# Altium schematic symbol library BundledUserSymbols.SchLib: 915 symbols (part 14 of 17)
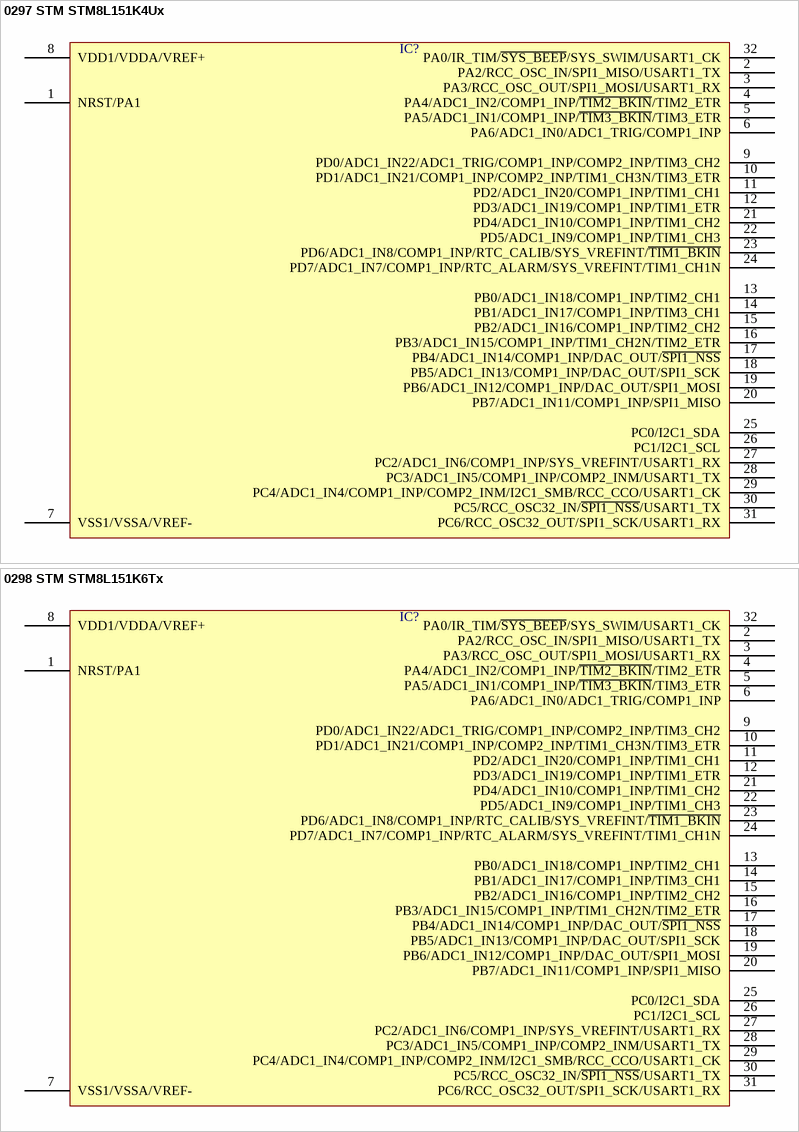
[diagram p180: symbols 0297 STM STM8L151K4Ux to 0298 STM STM8L151K6Tx]

## 0297 STM STM8L151K4Ux
designator IC?  (value not drawn)
pins: 1 NRST/PA1, 2 PA2/RCC_OSC_IN/SPI1_MISO/USART1_TX, 3 PA3/RCC_OSC_OUT/SPI1_MOSI/USART1_RX, 4 PA4/ADC1_IN2/COMP1_INP/~{TIM2_BKIN}/TIM2_ETR, 5 PA5/ADC1_IN1/COMP1_INP/~{TIM3_BKIN}/TIM3_ETR, 6 PA6/ADC1_IN0/ADC1_TRIG/COMP1_INP, 7 VSS1/VSSA/VREF-, 8 VDD1/VDDA/VREF+, 9 PD0/ADC1_IN22/ADC1_TRIG/COMP1_INP/COMP2_INP/TIM3_CH2, 10 PD1/ADC1_IN21/COMP1_INP/COMP2_INP/TIM1_CH3N/TIM3_ETR, 11 PD2/ADC1_IN20/COMP1_INP/TIM1_CH1, 12 PD3/ADC1_IN19/COMP1_INP/TIM1_ETR, 13 PB0/ADC1_IN18/COMP1_INP/TIM2_CH1, 14 PB1/ADC1_IN17/COMP1_INP/TIM3_CH1, 15 PB2/ADC1_IN16/COMP1_INP/TIM2_CH2, 16 PB3/ADC1_IN15/COMP1_INP/TIM1_CH2N/TIM2_ETR, 17 PB4/ADC1_IN14/COMP1_INP/DAC_OUT/~{SPI1_NSS}, 18 PB5/ADC1_IN13/COMP1_INP/DAC_OUT/SPI1_SCK, 19 PB6/ADC1_IN12/COMP1_INP/DAC_OUT/SPI1_MOSI, 20 PB7/ADC1_IN11/COMP1_INP/SPI1_MISO, 21 PD4/ADC1_IN10/COMP1_INP/TIM1_CH2, 22 PD5/ADC1_IN9/COMP1_INP/TIM1_CH3, 23 PD6/ADC1_IN8/COMP1_INP/RTC_CALIB/SYS_VREFINT/~{TIM1_BKIN}, 24 PD7/ADC1_IN7/COMP1_INP/RTC_ALARM/SYS_VREFINT/TIM1_CH1N, 25 PC0/I2C1_SDA, 26 PC1/I2C1_SCL, 27 PC2/ADC1_IN6/COMP1_INP/SYS_VREFINT/USART1_RX, 28 PC3/ADC1_IN5/COMP1_INP/COMP2_INM/USART1_TX, 29 PC4/ADC1_IN4/COMP1_INP/COMP2_INM/I2C1_SMB/RCC_CCO/USART1_CK, 30 PC5/RCC_OSC32_IN/~{SPI1_NSS}/USART1_TX, 31 PC6/RCC_OSC32_OUT/SPI1_SCK/USART1_RX, 32 PA0/IR_TIM/~{SYS_BEEP}/SYS_SWIM/USART1_CK

## 0298 STM STM8L151K6Tx
designator IC?  (value not drawn)
pins: 1 NRST/PA1, 2 PA2/RCC_OSC_IN/SPI1_MISO/USART1_TX, 3 PA3/RCC_OSC_OUT/SPI1_MOSI/USART1_RX, 4 PA4/ADC1_IN2/COMP1_INP/~{TIM2_BKIN}/TIM2_ETR, 5 PA5/ADC1_IN1/COMP1_INP/~{TIM3_BKIN}/TIM3_ETR, 6 PA6/ADC1_IN0/ADC1_TRIG/COMP1_INP, 7 VSS1/VSSA/VREF-, 8 VDD1/VDDA/VREF+, 9 PD0/ADC1_IN22/ADC1_TRIG/COMP1_INP/COMP2_INP/TIM3_CH2, 10 PD1/ADC1_IN21/COMP1_INP/COMP2_INP/TIM1_CH3N/TIM3_ETR, 11 PD2/ADC1_IN20/COMP1_INP/TIM1_CH1, 12 PD3/ADC1_IN19/COMP1_INP/TIM1_ETR, 13 PB0/ADC1_IN18/COMP1_INP/TIM2_CH1, 14 PB1/ADC1_IN17/COMP1_INP/TIM3_CH1, 15 PB2/ADC1_IN16/COMP1_INP/TIM2_CH2, 16 PB3/ADC1_IN15/COMP1_INP/TIM1_CH2N/TIM2_ETR, 17 PB4/ADC1_IN14/COMP1_INP/DAC_OUT/~{SPI1_NSS}, 18 PB5/ADC1_IN13/COMP1_INP/DAC_OUT/SPI1_SCK, 19 PB6/ADC1_IN12/COMP1_INP/DAC_OUT/SPI1_MOSI, 20 PB7/ADC1_IN11/COMP1_INP/SPI1_MISO, 21 PD4/ADC1_IN10/COMP1_INP/TIM1_CH2, 22 PD5/ADC1_IN9/COMP1_INP/TIM1_CH3, 23 PD6/ADC1_IN8/COMP1_INP/RTC_CALIB/SYS_VREFINT/~{TIM1_BKIN}, 24 PD7/ADC1_IN7/COMP1_INP/RTC_ALARM/SYS_VREFINT/TIM1_CH1N, 25 PC0/I2C1_SDA, 26 PC1/I2C1_SCL, 27 PC2/ADC1_IN6/COMP1_INP/SYS_VREFINT/USART1_RX, 28 PC3/ADC1_IN5/COMP1_INP/COMP2_INM/USART1_TX, 29 PC4/ADC1_IN4/COMP1_INP/COMP2_INM/I2C1_SMB/RCC_CCO/USART1_CK, 30 PC5/RCC_OSC32_IN/~{SPI1_NSS}/USART1_TX, 31 PC6/RCC_OSC32_OUT/SPI1_SCK/USART1_RX, 32 PA0/IR_TIM/~{SYS_BEEP}/SYS_SWIM/USART1_CK

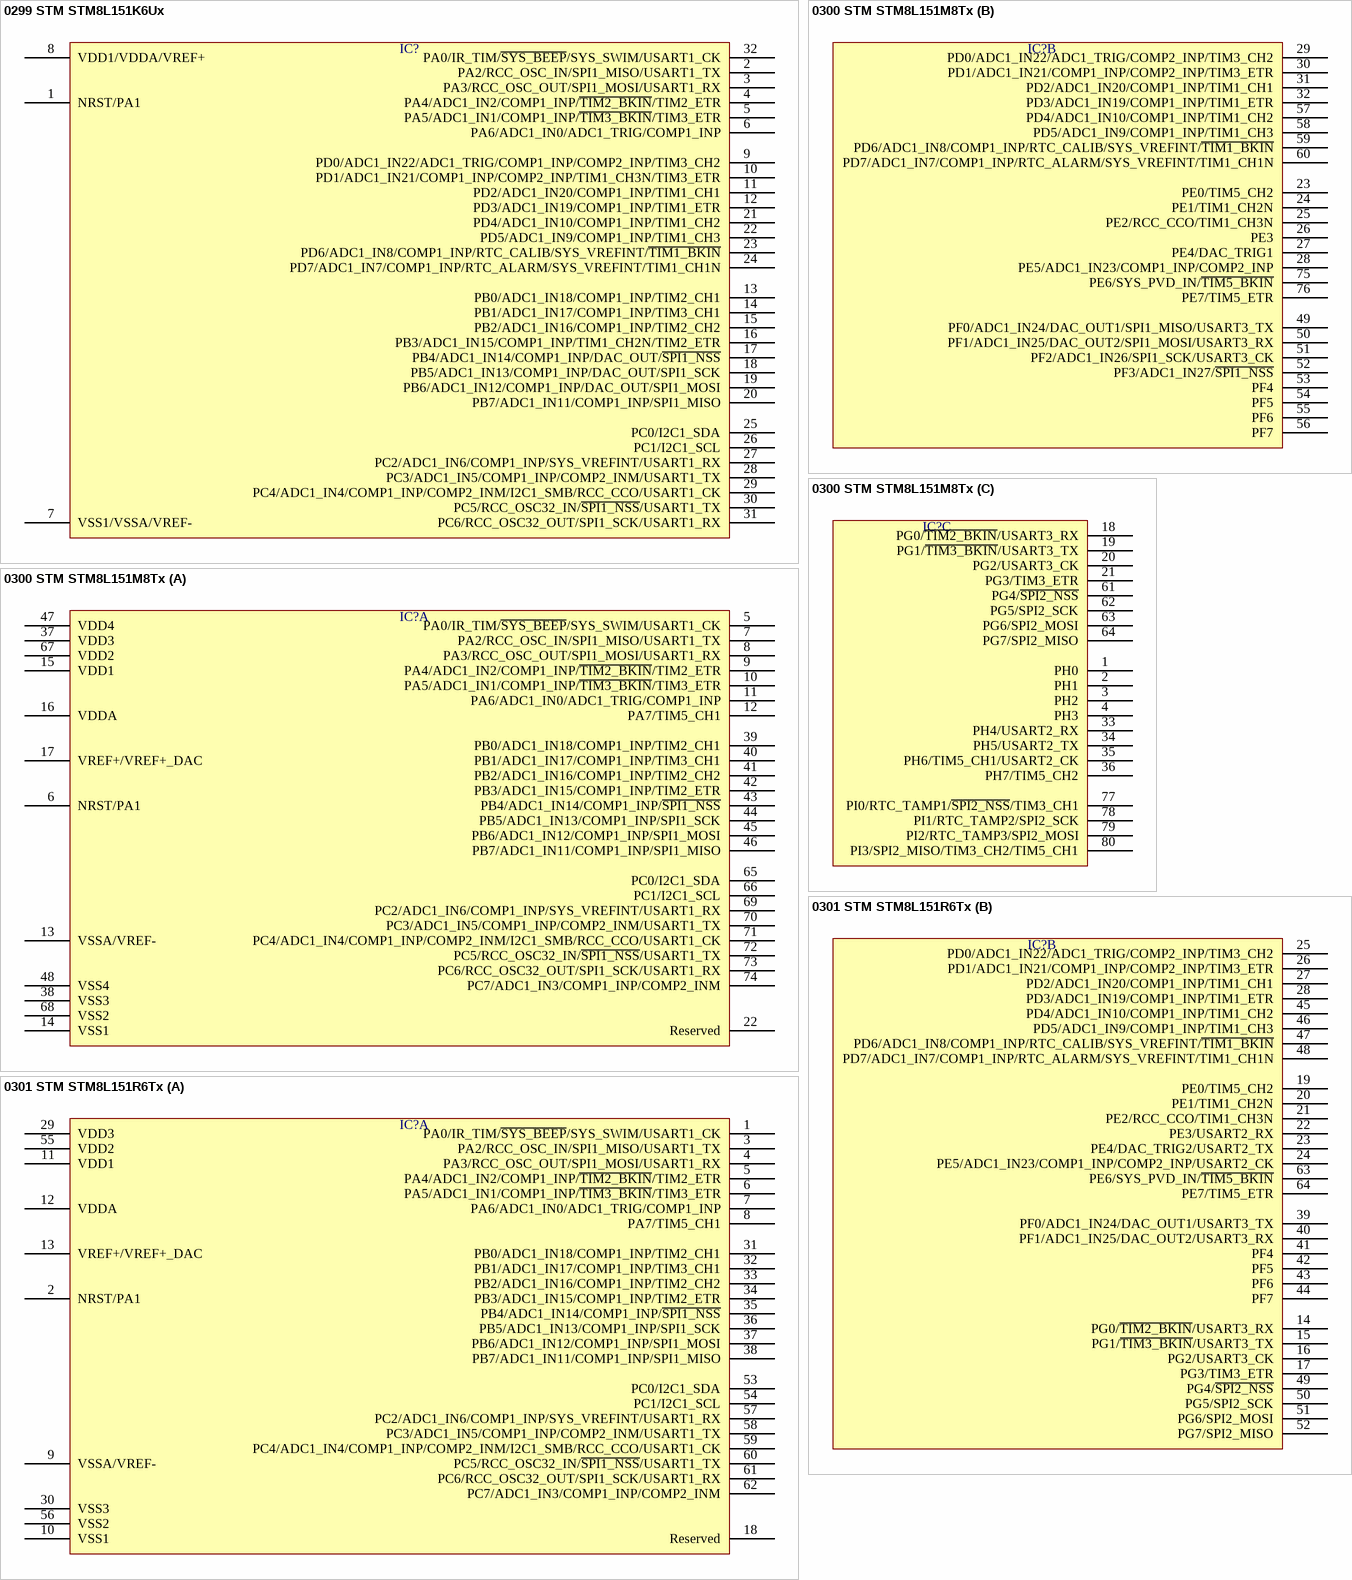
[diagram p130: symbols 0299 STM STM8L151K6Ux to 0301 STM STM8L151R6Tx]

## 0299 STM STM8L151K6Ux
designator IC?  (value not drawn)
pins: 1 NRST/PA1, 2 PA2/RCC_OSC_IN/SPI1_MISO/USART1_TX, 3 PA3/RCC_OSC_OUT/SPI1_MOSI/USART1_RX, 4 PA4/ADC1_IN2/COMP1_INP/~{TIM2_BKIN}/TIM2_ETR, 5 PA5/ADC1_IN1/COMP1_INP/~{TIM3_BKIN}/TIM3_ETR, 6 PA6/ADC1_IN0/ADC1_TRIG/COMP1_INP, 7 VSS1/VSSA/VREF-, 8 VDD1/VDDA/VREF+, 9 PD0/ADC1_IN22/ADC1_TRIG/COMP1_INP/COMP2_INP/TIM3_CH2, 10 PD1/ADC1_IN21/COMP1_INP/COMP2_INP/TIM1_CH3N/TIM3_ETR, 11 PD2/ADC1_IN20/COMP1_INP/TIM1_CH1, 12 PD3/ADC1_IN19/COMP1_INP/TIM1_ETR, 13 PB0/ADC1_IN18/COMP1_INP/TIM2_CH1, 14 PB1/ADC1_IN17/COMP1_INP/TIM3_CH1, 15 PB2/ADC1_IN16/COMP1_INP/TIM2_CH2, 16 PB3/ADC1_IN15/COMP1_INP/TIM1_CH2N/TIM2_ETR, 17 PB4/ADC1_IN14/COMP1_INP/DAC_OUT/~{SPI1_NSS}, 18 PB5/ADC1_IN13/COMP1_INP/DAC_OUT/SPI1_SCK, 19 PB6/ADC1_IN12/COMP1_INP/DAC_OUT/SPI1_MOSI, 20 PB7/ADC1_IN11/COMP1_INP/SPI1_MISO, 21 PD4/ADC1_IN10/COMP1_INP/TIM1_CH2, 22 PD5/ADC1_IN9/COMP1_INP/TIM1_CH3, 23 PD6/ADC1_IN8/COMP1_INP/RTC_CALIB/SYS_VREFINT/~{TIM1_BKIN}, 24 PD7/ADC1_IN7/COMP1_INP/RTC_ALARM/SYS_VREFINT/TIM1_CH1N, 25 PC0/I2C1_SDA, 26 PC1/I2C1_SCL, 27 PC2/ADC1_IN6/COMP1_INP/SYS_VREFINT/USART1_RX, 28 PC3/ADC1_IN5/COMP1_INP/COMP2_INM/USART1_TX, 29 PC4/ADC1_IN4/COMP1_INP/COMP2_INM/I2C1_SMB/RCC_CCO/USART1_CK, 30 PC5/RCC_OSC32_IN/~{SPI1_NSS}/USART1_TX, 31 PC6/RCC_OSC32_OUT/SPI1_SCK/USART1_RX, 32 PA0/IR_TIM/~{SYS_BEEP}/SYS_SWIM/USART1_CK

## 0300 STM STM8L151M8Tx
designator IC?  (value not drawn)
part A pins: 5 PA0/IR_TIM/~{SYS_BEEP}/SYS_SWIM/USART1_CK, 6 NRST/PA1, 7 PA2/RCC_OSC_IN/SPI1_MISO/USART1_TX, 8 PA3/RCC_OSC_OUT/SPI1_MOSI/USART1_RX, 9 PA4/ADC1_IN2/COMP1_INP/~{TIM2_BKIN}/TIM2_ETR, 10 PA5/ADC1_IN1/COMP1_INP/~{TIM3_BKIN}/TIM3_ETR, 11 PA6/ADC1_IN0/ADC1_TRIG/COMP1_INP, 12 PA7/TIM5_CH1, 13 VSSA/VREF-, 14 VSS1, 15 VDD1, 16 VDDA, 17 VREF+/VREF+_DAC, 22 Reserved, 37 VDD3, 38 VSS3, 39 PB0/ADC1_IN18/COMP1_INP/TIM2_CH1, 40 PB1/ADC1_IN17/COMP1_INP/TIM3_CH1, 41 PB2/ADC1_IN16/COMP1_INP/TIM2_CH2, 42 PB3/ADC1_IN15/COMP1_INP/TIM2_ETR, 43 PB4/ADC1_IN14/COMP1_INP/~{SPI1_NSS}, 44 PB5/ADC1_IN13/COMP1_INP/SPI1_SCK, 45 PB6/ADC1_IN12/COMP1_INP/SPI1_MOSI, 46 PB7/ADC1_IN11/COMP1_INP/SPI1_MISO, 47 VDD4, 48 VSS4, 65 PC0/I2C1_SDA, 66 PC1/I2C1_SCL, 67 VDD2, 68 VSS2, 69 PC2/ADC1_IN6/COMP1_INP/SYS_VREFINT/USART1_RX, 70 PC3/ADC1_IN5/COMP1_INP/COMP2_INM/USART1_TX, 71 PC4/ADC1_IN4/COMP1_INP/COMP2_INM/I2C1_SMB/RCC_CCO/USART1_CK, 72 PC5/RCC_OSC32_IN/~{SPI1_NSS}/USART1_TX, 73 PC6/RCC_OSC32_OUT/SPI1_SCK/USART1_RX, 74 PC7/ADC1_IN3/COMP1_INP/COMP2_INM
part B pins: 23 PE0/TIM5_CH2, 24 PE1/TIM1_CH2N, 25 PE2/RCC_CCO/TIM1_CH3N, 26 PE3, 27 PE4/DAC_TRIG1, 28 PE5/ADC1_IN23/COMP1_INP/COMP2_INP, 29 PD0/ADC1_IN22/ADC1_TRIG/COMP2_INP/TIM3_CH2, 30 PD1/ADC1_IN21/COMP1_INP/COMP2_INP/TIM3_ETR, 31 PD2/ADC1_IN20/COMP1_INP/TIM1_CH1, 32 PD3/ADC1_IN19/COMP1_INP/TIM1_ETR, 49 PF0/ADC1_IN24/DAC_OUT1/SPI1_MISO/USART3_TX, 50 PF1/ADC1_IN25/DAC_OUT2/SPI1_MOSI/USART3_RX, 51 PF2/ADC1_IN26/SPI1_SCK/USART3_CK, 52 PF3/ADC1_IN27/~{SPI1_NSS}, 53 PF4, 54 PF5, 55 PF6, 56 PF7, 57 PD4/ADC1_IN10/COMP1_INP/TIM1_CH2, 58 PD5/ADC1_IN9/COMP1_INP/TIM1_CH3, 59 PD6/ADC1_IN8/COMP1_INP/RTC_CALIB/SYS_VREFINT/~{TIM1_BKIN}, 60 PD7/ADC1_IN7/COMP1_INP/RTC_ALARM/SYS_VREFINT/TIM1_CH1N, 75 PE6/SYS_PVD_IN/~{TIM5_BKIN}, 76 PE7/TIM5_ETR
part C pins: 1 PH0, 2 PH1, 3 PH2, 4 PH3, 18 PG0/~{TIM2_BKIN}/USART3_RX, 19 PG1/~{TIM3_BKIN}/USART3_TX, 20 PG2/USART3_CK, 21 PG3/TIM3_ETR, 33 PH4/USART2_RX, 34 PH5/USART2_TX, 35 PH6/TIM5_CH1/USART2_CK, 36 PH7/TIM5_CH2, 61 PG4/~{SPI2_NSS}, 62 PG5/SPI2_SCK, 63 PG6/SPI2_MOSI, 64 PG7/SPI2_MISO, 77 PI0/RTC_TAMP1/~{SPI2_NSS}/TIM3_CH1, 78 PI1/RTC_TAMP2/SPI2_SCK, 79 PI2/RTC_TAMP3/SPI2_MOSI, 80 PI3/SPI2_MISO/TIM3_CH2/TIM5_CH1

## 0301 STM STM8L151R6Tx
designator IC?  (value not drawn)
part A pins: 1 PA0/IR_TIM/~{SYS_BEEP}/SYS_SWIM/USART1_CK, 2 NRST/PA1, 3 PA2/RCC_OSC_IN/SPI1_MISO/USART1_TX, 4 PA3/RCC_OSC_OUT/SPI1_MOSI/USART1_RX, 5 PA4/ADC1_IN2/COMP1_INP/~{TIM2_BKIN}/TIM2_ETR, 6 PA5/ADC1_IN1/COMP1_INP/~{TIM3_BKIN}/TIM3_ETR, 7 PA6/ADC1_IN0/ADC1_TRIG/COMP1_INP, 8 PA7/TIM5_CH1, 9 VSSA/VREF-, 10 VSS1, 11 VDD1, 12 VDDA, 13 VREF+/VREF+_DAC, 18 Reserved, 29 VDD3, 30 VSS3, 31 PB0/ADC1_IN18/COMP1_INP/TIM2_CH1, 32 PB1/ADC1_IN17/COMP1_INP/TIM3_CH1, 33 PB2/ADC1_IN16/COMP1_INP/TIM2_CH2, 34 PB3/ADC1_IN15/COMP1_INP/TIM2_ETR, 35 PB4/ADC1_IN14/COMP1_INP/~{SPI1_NSS}, 36 PB5/ADC1_IN13/COMP1_INP/SPI1_SCK, 37 PB6/ADC1_IN12/COMP1_INP/SPI1_MOSI, 38 PB7/ADC1_IN11/COMP1_INP/SPI1_MISO, 53 PC0/I2C1_SDA, 54 PC1/I2C1_SCL, 55 VDD2, 56 VSS2, 57 PC2/ADC1_IN6/COMP1_INP/SYS_VREFINT/USART1_RX, 58 PC3/ADC1_IN5/COMP1_INP/COMP2_INM/USART1_TX, 59 PC4/ADC1_IN4/COMP1_INP/COMP2_INM/I2C1_SMB/RCC_CCO/USART1_CK, 60 PC5/RCC_OSC32_IN/~{SPI1_NSS}/USART1_TX, 61 PC6/RCC_OSC32_OUT/SPI1_SCK/USART1_RX, 62 PC7/ADC1_IN3/COMP1_INP/COMP2_INM
part B pins: 14 PG0/~{TIM2_BKIN}/USART3_RX, 15 PG1/~{TIM3_BKIN}/USART3_TX, 16 PG2/USART3_CK, 17 PG3/TIM3_ETR, 19 PE0/TIM5_CH2, 20 PE1/TIM1_CH2N, 21 PE2/RCC_CCO/TIM1_CH3N, 22 PE3/USART2_RX, 23 PE4/DAC_TRIG2/USART2_TX, 24 PE5/ADC1_IN23/COMP1_INP/COMP2_INP/USART2_CK, 25 PD0/ADC1_IN22/ADC1_TRIG/COMP2_INP/TIM3_CH2, 26 PD1/ADC1_IN21/COMP1_INP/COMP2_INP/TIM3_ETR, 27 PD2/ADC1_IN20/COMP1_INP/TIM1_CH1, 28 PD3/ADC1_IN19/COMP1_INP/TIM1_ETR, 39 PF0/ADC1_IN24/DAC_OUT1/USART3_TX, 40 PF1/ADC1_IN25/DAC_OUT2/USART3_RX, 41 PF4, 42 PF5, 43 PF6, 44 PF7, 45 PD4/ADC1_IN10/COMP1_INP/TIM1_CH2, 46 PD5/ADC1_IN9/COMP1_INP/TIM1_CH3, 47 PD6/ADC1_IN8/COMP1_INP/RTC_CALIB/SYS_VREFINT/~{TIM1_BKIN}, 48 PD7/ADC1_IN7/COMP1_INP/RTC_ALARM/SYS_VREFINT/TIM1_CH1N, 49 PG4/~{SPI2_NSS}, 50 PG5/SPI2_SCK, 51 PG6/SPI2_MOSI, 52 PG7/SPI2_MISO, 63 PE6/SYS_PVD_IN/~{TIM5_BKIN}, 64 PE7/TIM5_ETR

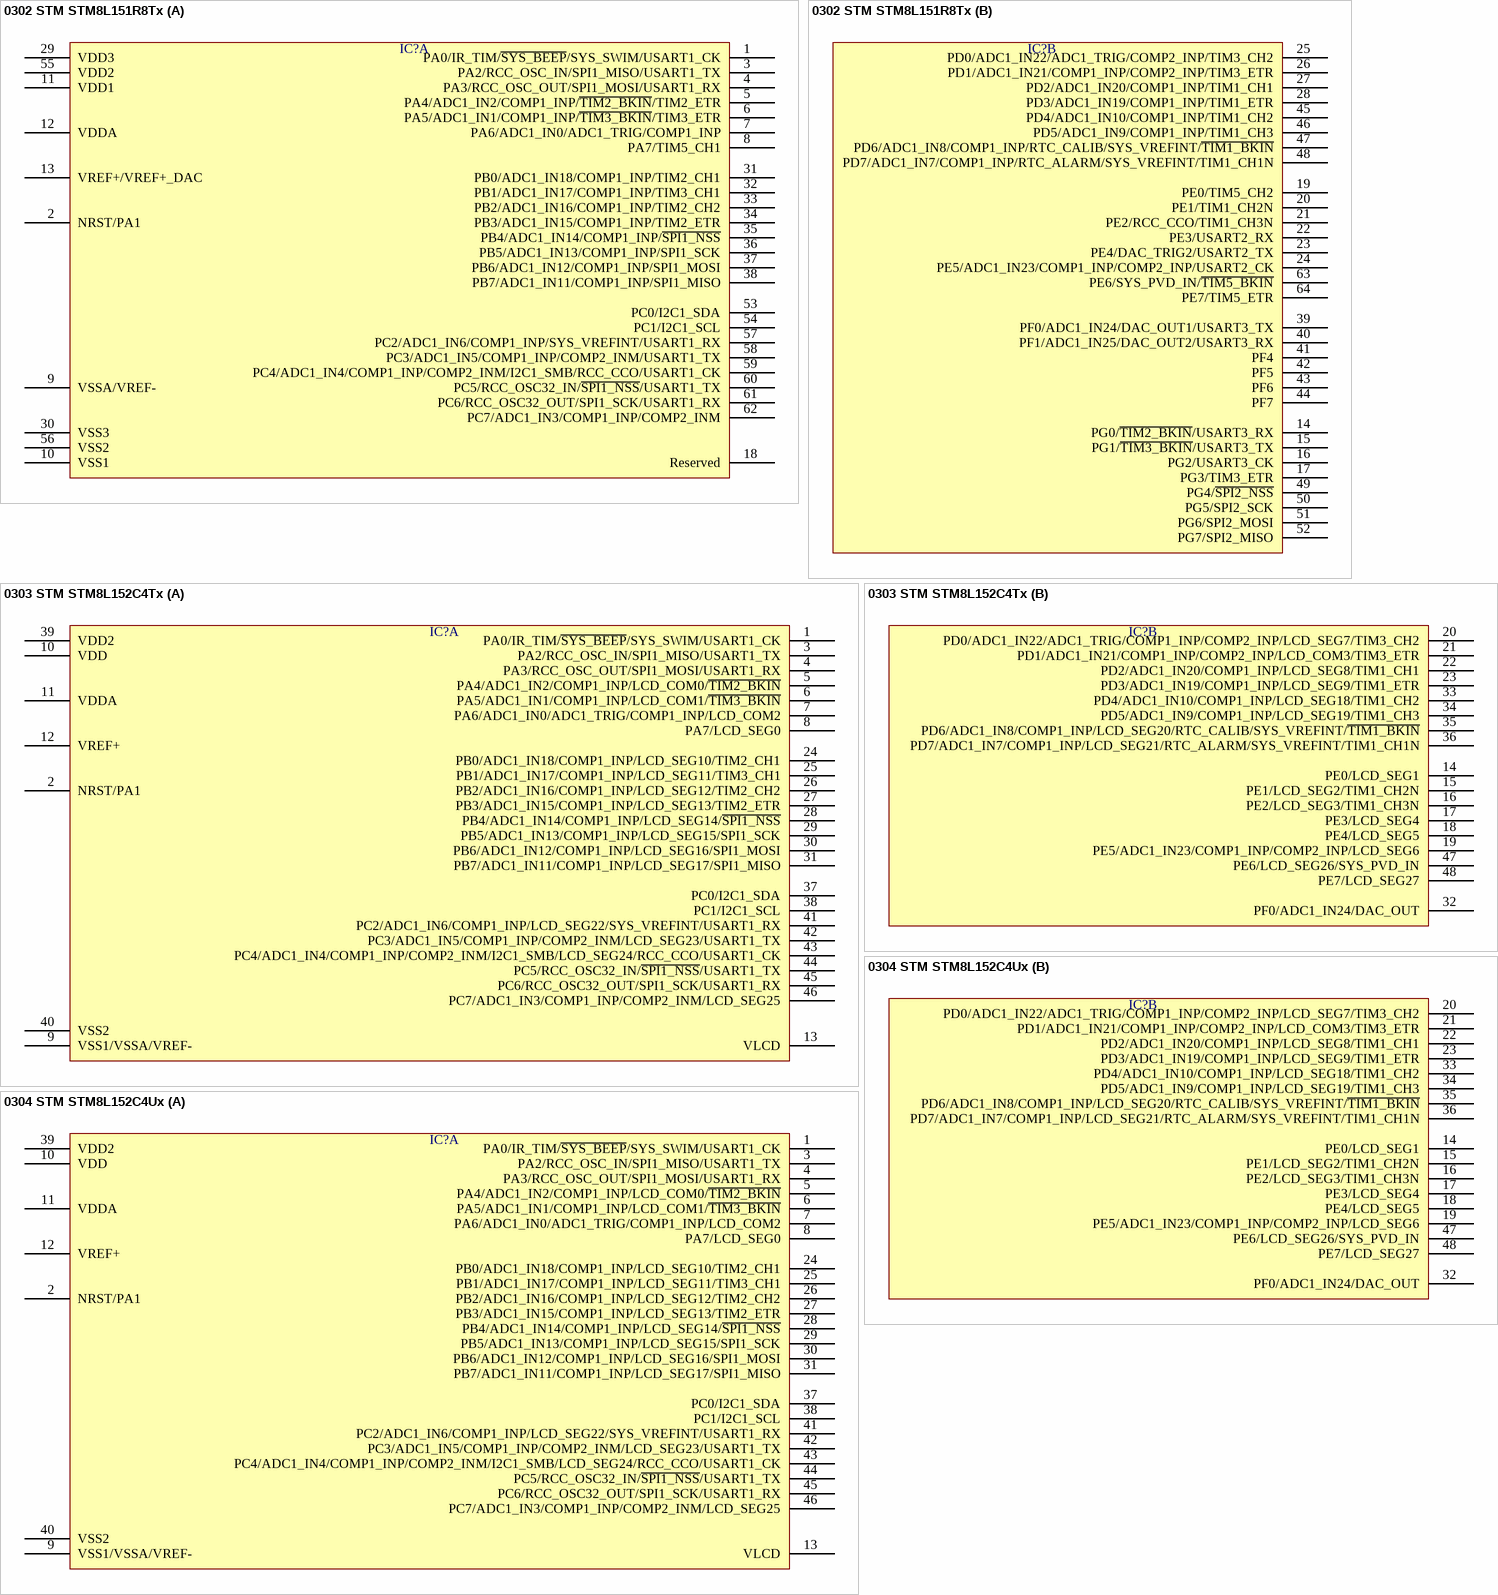
[diagram p131: symbols 0302 STM STM8L151R8Tx to 0304 STM STM8L152C4Ux]

## 0302 STM STM8L151R8Tx
designator IC?  (value not drawn)
part A pins: 1 PA0/IR_TIM/~{SYS_BEEP}/SYS_SWIM/USART1_CK, 2 NRST/PA1, 3 PA2/RCC_OSC_IN/SPI1_MISO/USART1_TX, 4 PA3/RCC_OSC_OUT/SPI1_MOSI/USART1_RX, 5 PA4/ADC1_IN2/COMP1_INP/~{TIM2_BKIN}/TIM2_ETR, 6 PA5/ADC1_IN1/COMP1_INP/~{TIM3_BKIN}/TIM3_ETR, 7 PA6/ADC1_IN0/ADC1_TRIG/COMP1_INP, 8 PA7/TIM5_CH1, 9 VSSA/VREF-, 10 VSS1, 11 VDD1, 12 VDDA, 13 VREF+/VREF+_DAC, 18 Reserved, 29 VDD3, 30 VSS3, 31 PB0/ADC1_IN18/COMP1_INP/TIM2_CH1, 32 PB1/ADC1_IN17/COMP1_INP/TIM3_CH1, 33 PB2/ADC1_IN16/COMP1_INP/TIM2_CH2, 34 PB3/ADC1_IN15/COMP1_INP/TIM2_ETR, 35 PB4/ADC1_IN14/COMP1_INP/~{SPI1_NSS}, 36 PB5/ADC1_IN13/COMP1_INP/SPI1_SCK, 37 PB6/ADC1_IN12/COMP1_INP/SPI1_MOSI, 38 PB7/ADC1_IN11/COMP1_INP/SPI1_MISO, 53 PC0/I2C1_SDA, 54 PC1/I2C1_SCL, 55 VDD2, 56 VSS2, 57 PC2/ADC1_IN6/COMP1_INP/SYS_VREFINT/USART1_RX, 58 PC3/ADC1_IN5/COMP1_INP/COMP2_INM/USART1_TX, 59 PC4/ADC1_IN4/COMP1_INP/COMP2_INM/I2C1_SMB/RCC_CCO/USART1_CK, 60 PC5/RCC_OSC32_IN/~{SPI1_NSS}/USART1_TX, 61 PC6/RCC_OSC32_OUT/SPI1_SCK/USART1_RX, 62 PC7/ADC1_IN3/COMP1_INP/COMP2_INM
part B pins: 14 PG0/~{TIM2_BKIN}/USART3_RX, 15 PG1/~{TIM3_BKIN}/USART3_TX, 16 PG2/USART3_CK, 17 PG3/TIM3_ETR, 19 PE0/TIM5_CH2, 20 PE1/TIM1_CH2N, 21 PE2/RCC_CCO/TIM1_CH3N, 22 PE3/USART2_RX, 23 PE4/DAC_TRIG2/USART2_TX, 24 PE5/ADC1_IN23/COMP1_INP/COMP2_INP/USART2_CK, 25 PD0/ADC1_IN22/ADC1_TRIG/COMP2_INP/TIM3_CH2, 26 PD1/ADC1_IN21/COMP1_INP/COMP2_INP/TIM3_ETR, 27 PD2/ADC1_IN20/COMP1_INP/TIM1_CH1, 28 PD3/ADC1_IN19/COMP1_INP/TIM1_ETR, 39 PF0/ADC1_IN24/DAC_OUT1/USART3_TX, 40 PF1/ADC1_IN25/DAC_OUT2/USART3_RX, 41 PF4, 42 PF5, 43 PF6, 44 PF7, 45 PD4/ADC1_IN10/COMP1_INP/TIM1_CH2, 46 PD5/ADC1_IN9/COMP1_INP/TIM1_CH3, 47 PD6/ADC1_IN8/COMP1_INP/RTC_CALIB/SYS_VREFINT/~{TIM1_BKIN}, 48 PD7/ADC1_IN7/COMP1_INP/RTC_ALARM/SYS_VREFINT/TIM1_CH1N, 49 PG4/~{SPI2_NSS}, 50 PG5/SPI2_SCK, 51 PG6/SPI2_MOSI, 52 PG7/SPI2_MISO, 63 PE6/SYS_PVD_IN/~{TIM5_BKIN}, 64 PE7/TIM5_ETR

## 0303 STM STM8L152C4Tx
designator IC?  (value not drawn)
part A pins: 1 PA0/IR_TIM/~{SYS_BEEP}/SYS_SWIM/USART1_CK, 2 NRST/PA1, 3 PA2/RCC_OSC_IN/SPI1_MISO/USART1_TX, 4 PA3/RCC_OSC_OUT/SPI1_MOSI/USART1_RX, 5 PA4/ADC1_IN2/COMP1_INP/LCD_COM0/~{TIM2_BKIN}, 6 PA5/ADC1_IN1/COMP1_INP/LCD_COM1/~{TIM3_BKIN}, 7 PA6/ADC1_IN0/ADC1_TRIG/COMP1_INP/LCD_COM2, 8 PA7/LCD_SEG0, 9 VSS1/VSSA/VREF-, 10 VDD, 11 VDDA, 12 VREF+, 13 VLCD, 24 PB0/ADC1_IN18/COMP1_INP/LCD_SEG10/TIM2_CH1, 25 PB1/ADC1_IN17/COMP1_INP/LCD_SEG11/TIM3_CH1, 26 PB2/ADC1_IN16/COMP1_INP/LCD_SEG12/TIM2_CH2, 27 PB3/ADC1_IN15/COMP1_INP/LCD_SEG13/TIM2_ETR, 28 PB4/ADC1_IN14/COMP1_INP/LCD_SEG14/~{SPI1_NSS}, 29 PB5/ADC1_IN13/COMP1_INP/LCD_SEG15/SPI1_SCK, 30 PB6/ADC1_IN12/COMP1_INP/LCD_SEG16/SPI1_MOSI, 31 PB7/ADC1_IN11/COMP1_INP/LCD_SEG17/SPI1_MISO, 37 PC0/I2C1_SDA, 38 PC1/I2C1_SCL, 39 VDD2, 40 VSS2, 41 PC2/ADC1_IN6/COMP1_INP/LCD_SEG22/SYS_VREFINT/USART1_RX, 42 PC3/ADC1_IN5/COMP1_INP/COMP2_INM/LCD_SEG23/USART1_TX, 43 PC4/ADC1_IN4/COMP1_INP/COMP2_INM/I2C1_SMB/LCD_SEG24/RCC_CCO/USART1_CK, 44 PC5/RCC_OSC32_IN/~{SPI1_NSS}/USART1_TX, 45 PC6/RCC_OSC32_OUT/SPI1_SCK/USART1_RX, 46 PC7/ADC1_IN3/COMP1_INP/COMP2_INM/LCD_SEG25
part B pins: 14 PE0/LCD_SEG1, 15 PE1/LCD_SEG2/TIM1_CH2N, 16 PE2/LCD_SEG3/TIM1_CH3N, 17 PE3/LCD_SEG4, 18 PE4/LCD_SEG5, 19 PE5/ADC1_IN23/COMP1_INP/COMP2_INP/LCD_SEG6, 20 PD0/ADC1_IN22/ADC1_TRIG/COMP1_INP/COMP2_INP/LCD_SEG7/TIM3_CH2, 21 PD1/ADC1_IN21/COMP1_INP/COMP2_INP/LCD_COM3/TIM3_ETR, 22 PD2/ADC1_IN20/COMP1_INP/LCD_SEG8/TIM1_CH1, 23 PD3/ADC1_IN19/COMP1_INP/LCD_SEG9/TIM1_ETR, 32 PF0/ADC1_IN24/DAC_OUT, 33 PD4/ADC1_IN10/COMP1_INP/LCD_SEG18/TIM1_CH2, 34 PD5/ADC1_IN9/COMP1_INP/LCD_SEG19/TIM1_CH3, 35 PD6/ADC1_IN8/COMP1_INP/LCD_SEG20/RTC_CALIB/SYS_VREFINT/~{TIM1_BKIN}, 36 PD7/ADC1_IN7/COMP1_INP/LCD_SEG21/RTC_ALARM/SYS_VREFINT/TIM1_CH1N, 47 PE6/LCD_SEG26/SYS_PVD_IN, 48 PE7/LCD_SEG27

## 0304 STM STM8L152C4Ux
designator IC?  (value not drawn)
part A pins: 1 PA0/IR_TIM/~{SYS_BEEP}/SYS_SWIM/USART1_CK, 2 NRST/PA1, 3 PA2/RCC_OSC_IN/SPI1_MISO/USART1_TX, 4 PA3/RCC_OSC_OUT/SPI1_MOSI/USART1_RX, 5 PA4/ADC1_IN2/COMP1_INP/LCD_COM0/~{TIM2_BKIN}, 6 PA5/ADC1_IN1/COMP1_INP/LCD_COM1/~{TIM3_BKIN}, 7 PA6/ADC1_IN0/ADC1_TRIG/COMP1_INP/LCD_COM2, 8 PA7/LCD_SEG0, 9 VSS1/VSSA/VREF-, 10 VDD, 11 VDDA, 12 VREF+, 13 VLCD, 24 PB0/ADC1_IN18/COMP1_INP/LCD_SEG10/TIM2_CH1, 25 PB1/ADC1_IN17/COMP1_INP/LCD_SEG11/TIM3_CH1, 26 PB2/ADC1_IN16/COMP1_INP/LCD_SEG12/TIM2_CH2, 27 PB3/ADC1_IN15/COMP1_INP/LCD_SEG13/TIM2_ETR, 28 PB4/ADC1_IN14/COMP1_INP/LCD_SEG14/~{SPI1_NSS}, 29 PB5/ADC1_IN13/COMP1_INP/LCD_SEG15/SPI1_SCK, 30 PB6/ADC1_IN12/COMP1_INP/LCD_SEG16/SPI1_MOSI, 31 PB7/ADC1_IN11/COMP1_INP/LCD_SEG17/SPI1_MISO, 37 PC0/I2C1_SDA, 38 PC1/I2C1_SCL, 39 VDD2, 40 VSS2, 41 PC2/ADC1_IN6/COMP1_INP/LCD_SEG22/SYS_VREFINT/USART1_RX, 42 PC3/ADC1_IN5/COMP1_INP/COMP2_INM/LCD_SEG23/USART1_TX, 43 PC4/ADC1_IN4/COMP1_INP/COMP2_INM/I2C1_SMB/LCD_SEG24/RCC_CCO/USART1_CK, 44 PC5/RCC_OSC32_IN/~{SPI1_NSS}/USART1_TX, 45 PC6/RCC_OSC32_OUT/SPI1_SCK/USART1_RX, 46 PC7/ADC1_IN3/COMP1_INP/COMP2_INM/LCD_SEG25
part B pins: 14 PE0/LCD_SEG1, 15 PE1/LCD_SEG2/TIM1_CH2N, 16 PE2/LCD_SEG3/TIM1_CH3N, 17 PE3/LCD_SEG4, 18 PE4/LCD_SEG5, 19 PE5/ADC1_IN23/COMP1_INP/COMP2_INP/LCD_SEG6, 20 PD0/ADC1_IN22/ADC1_TRIG/COMP1_INP/COMP2_INP/LCD_SEG7/TIM3_CH2, 21 PD1/ADC1_IN21/COMP1_INP/COMP2_INP/LCD_COM3/TIM3_ETR, 22 PD2/ADC1_IN20/COMP1_INP/LCD_SEG8/TIM1_CH1, 23 PD3/ADC1_IN19/COMP1_INP/LCD_SEG9/TIM1_ETR, 32 PF0/ADC1_IN24/DAC_OUT, 33 PD4/ADC1_IN10/COMP1_INP/LCD_SEG18/TIM1_CH2, 34 PD5/ADC1_IN9/COMP1_INP/LCD_SEG19/TIM1_CH3, 35 PD6/ADC1_IN8/COMP1_INP/LCD_SEG20/RTC_CALIB/SYS_VREFINT/~{TIM1_BKIN}, 36 PD7/ADC1_IN7/COMP1_INP/LCD_SEG21/RTC_ALARM/SYS_VREFINT/TIM1_CH1N, 47 PE6/LCD_SEG26/SYS_PVD_IN, 48 PE7/LCD_SEG27

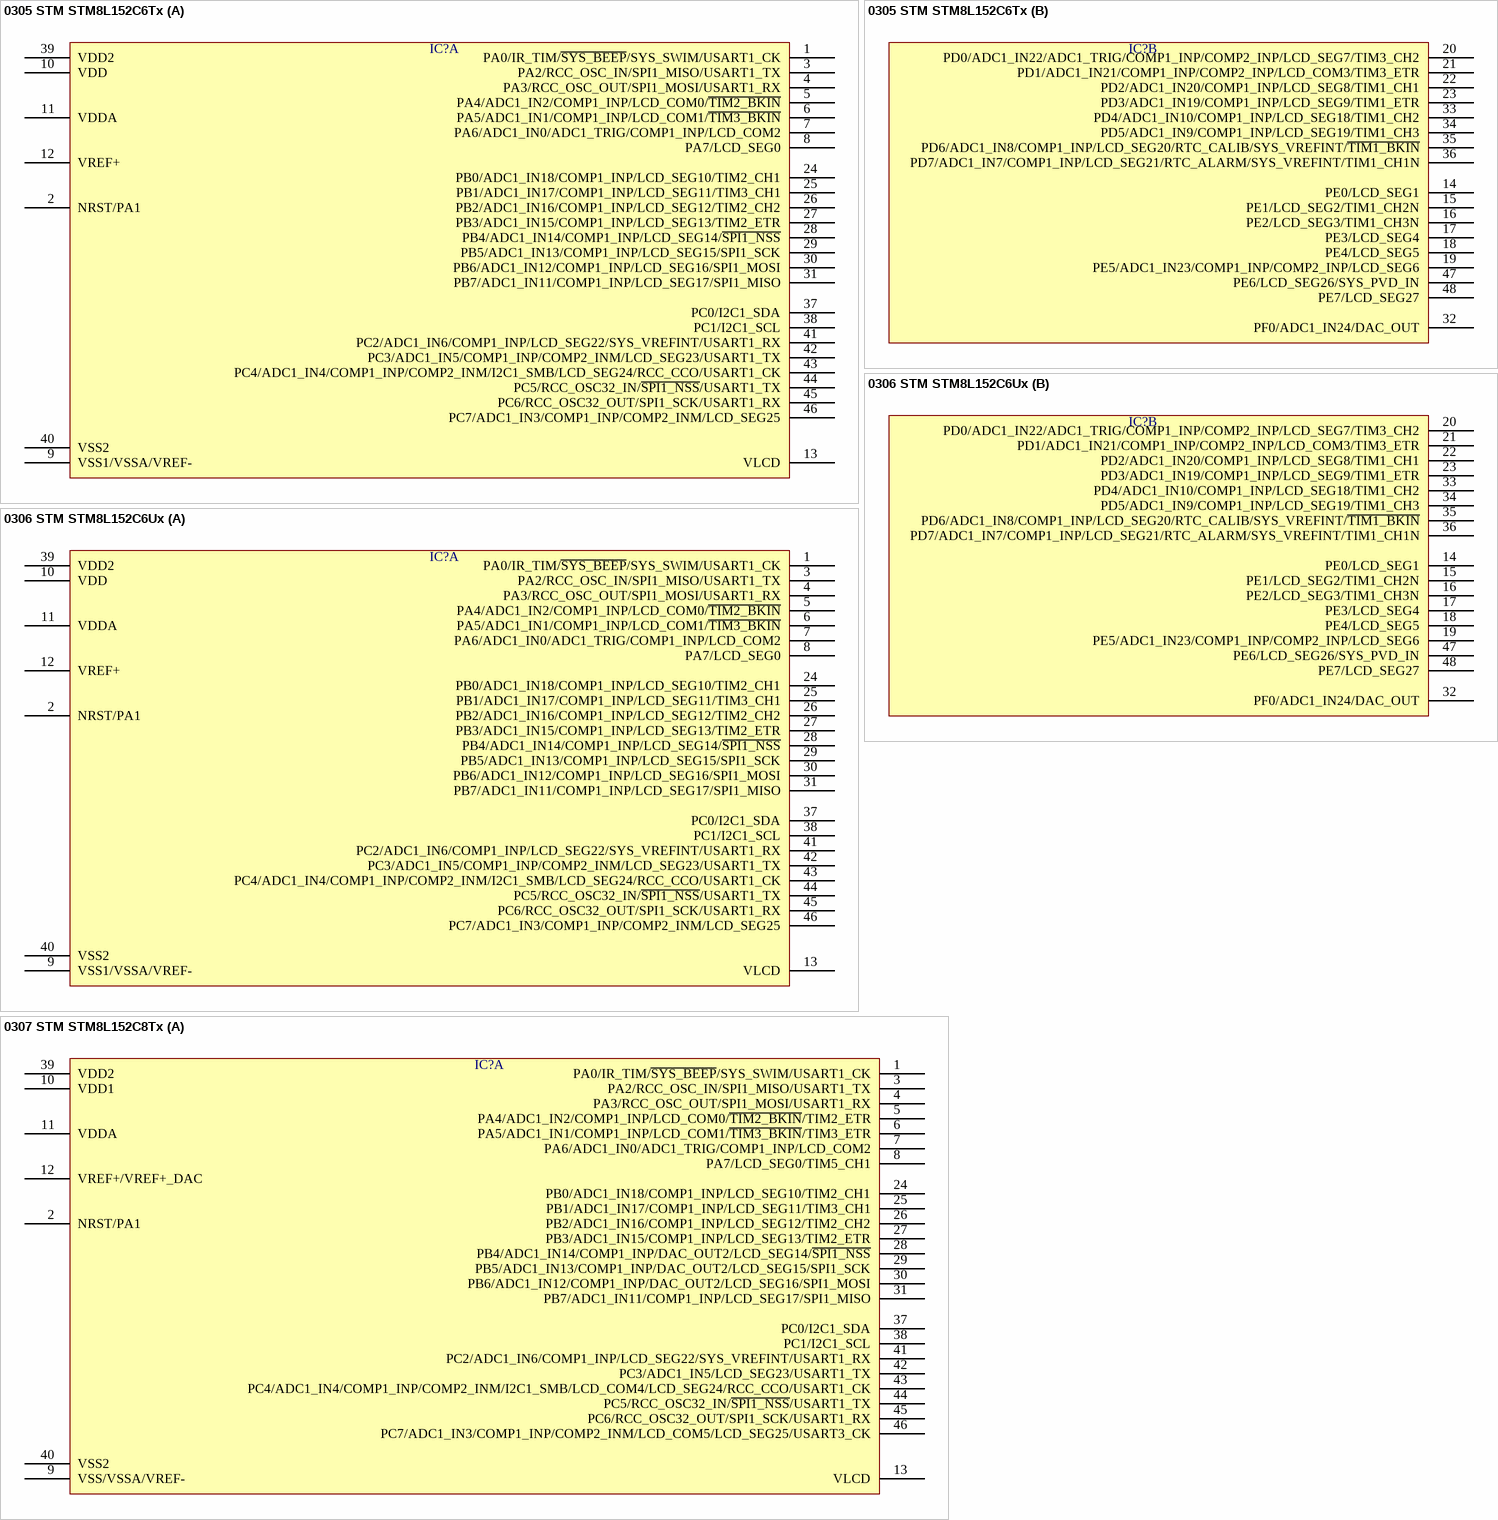
[diagram p132: symbols 0305 STM STM8L152C6Tx to 0307 STM STM8L152C8Tx]

## 0305 STM STM8L152C6Tx
designator IC?  (value not drawn)
part A pins: 1 PA0/IR_TIM/~{SYS_BEEP}/SYS_SWIM/USART1_CK, 2 NRST/PA1, 3 PA2/RCC_OSC_IN/SPI1_MISO/USART1_TX, 4 PA3/RCC_OSC_OUT/SPI1_MOSI/USART1_RX, 5 PA4/ADC1_IN2/COMP1_INP/LCD_COM0/~{TIM2_BKIN}, 6 PA5/ADC1_IN1/COMP1_INP/LCD_COM1/~{TIM3_BKIN}, 7 PA6/ADC1_IN0/ADC1_TRIG/COMP1_INP/LCD_COM2, 8 PA7/LCD_SEG0, 9 VSS1/VSSA/VREF-, 10 VDD, 11 VDDA, 12 VREF+, 13 VLCD, 24 PB0/ADC1_IN18/COMP1_INP/LCD_SEG10/TIM2_CH1, 25 PB1/ADC1_IN17/COMP1_INP/LCD_SEG11/TIM3_CH1, 26 PB2/ADC1_IN16/COMP1_INP/LCD_SEG12/TIM2_CH2, 27 PB3/ADC1_IN15/COMP1_INP/LCD_SEG13/TIM2_ETR, 28 PB4/ADC1_IN14/COMP1_INP/LCD_SEG14/~{SPI1_NSS}, 29 PB5/ADC1_IN13/COMP1_INP/LCD_SEG15/SPI1_SCK, 30 PB6/ADC1_IN12/COMP1_INP/LCD_SEG16/SPI1_MOSI, 31 PB7/ADC1_IN11/COMP1_INP/LCD_SEG17/SPI1_MISO, 37 PC0/I2C1_SDA, 38 PC1/I2C1_SCL, 39 VDD2, 40 VSS2, 41 PC2/ADC1_IN6/COMP1_INP/LCD_SEG22/SYS_VREFINT/USART1_RX, 42 PC3/ADC1_IN5/COMP1_INP/COMP2_INM/LCD_SEG23/USART1_TX, 43 PC4/ADC1_IN4/COMP1_INP/COMP2_INM/I2C1_SMB/LCD_SEG24/RCC_CCO/USART1_CK, 44 PC5/RCC_OSC32_IN/~{SPI1_NSS}/USART1_TX, 45 PC6/RCC_OSC32_OUT/SPI1_SCK/USART1_RX, 46 PC7/ADC1_IN3/COMP1_INP/COMP2_INM/LCD_SEG25
part B pins: 14 PE0/LCD_SEG1, 15 PE1/LCD_SEG2/TIM1_CH2N, 16 PE2/LCD_SEG3/TIM1_CH3N, 17 PE3/LCD_SEG4, 18 PE4/LCD_SEG5, 19 PE5/ADC1_IN23/COMP1_INP/COMP2_INP/LCD_SEG6, 20 PD0/ADC1_IN22/ADC1_TRIG/COMP1_INP/COMP2_INP/LCD_SEG7/TIM3_CH2, 21 PD1/ADC1_IN21/COMP1_INP/COMP2_INP/LCD_COM3/TIM3_ETR, 22 PD2/ADC1_IN20/COMP1_INP/LCD_SEG8/TIM1_CH1, 23 PD3/ADC1_IN19/COMP1_INP/LCD_SEG9/TIM1_ETR, 32 PF0/ADC1_IN24/DAC_OUT, 33 PD4/ADC1_IN10/COMP1_INP/LCD_SEG18/TIM1_CH2, 34 PD5/ADC1_IN9/COMP1_INP/LCD_SEG19/TIM1_CH3, 35 PD6/ADC1_IN8/COMP1_INP/LCD_SEG20/RTC_CALIB/SYS_VREFINT/~{TIM1_BKIN}, 36 PD7/ADC1_IN7/COMP1_INP/LCD_SEG21/RTC_ALARM/SYS_VREFINT/TIM1_CH1N, 47 PE6/LCD_SEG26/SYS_PVD_IN, 48 PE7/LCD_SEG27

## 0306 STM STM8L152C6Ux
designator IC?  (value not drawn)
part A pins: 1 PA0/IR_TIM/~{SYS_BEEP}/SYS_SWIM/USART1_CK, 2 NRST/PA1, 3 PA2/RCC_OSC_IN/SPI1_MISO/USART1_TX, 4 PA3/RCC_OSC_OUT/SPI1_MOSI/USART1_RX, 5 PA4/ADC1_IN2/COMP1_INP/LCD_COM0/~{TIM2_BKIN}, 6 PA5/ADC1_IN1/COMP1_INP/LCD_COM1/~{TIM3_BKIN}, 7 PA6/ADC1_IN0/ADC1_TRIG/COMP1_INP/LCD_COM2, 8 PA7/LCD_SEG0, 9 VSS1/VSSA/VREF-, 10 VDD, 11 VDDA, 12 VREF+, 13 VLCD, 24 PB0/ADC1_IN18/COMP1_INP/LCD_SEG10/TIM2_CH1, 25 PB1/ADC1_IN17/COMP1_INP/LCD_SEG11/TIM3_CH1, 26 PB2/ADC1_IN16/COMP1_INP/LCD_SEG12/TIM2_CH2, 27 PB3/ADC1_IN15/COMP1_INP/LCD_SEG13/TIM2_ETR, 28 PB4/ADC1_IN14/COMP1_INP/LCD_SEG14/~{SPI1_NSS}, 29 PB5/ADC1_IN13/COMP1_INP/LCD_SEG15/SPI1_SCK, 30 PB6/ADC1_IN12/COMP1_INP/LCD_SEG16/SPI1_MOSI, 31 PB7/ADC1_IN11/COMP1_INP/LCD_SEG17/SPI1_MISO, 37 PC0/I2C1_SDA, 38 PC1/I2C1_SCL, 39 VDD2, 40 VSS2, 41 PC2/ADC1_IN6/COMP1_INP/LCD_SEG22/SYS_VREFINT/USART1_RX, 42 PC3/ADC1_IN5/COMP1_INP/COMP2_INM/LCD_SEG23/USART1_TX, 43 PC4/ADC1_IN4/COMP1_INP/COMP2_INM/I2C1_SMB/LCD_SEG24/RCC_CCO/USART1_CK, 44 PC5/RCC_OSC32_IN/~{SPI1_NSS}/USART1_TX, 45 PC6/RCC_OSC32_OUT/SPI1_SCK/USART1_RX, 46 PC7/ADC1_IN3/COMP1_INP/COMP2_INM/LCD_SEG25
part B pins: 14 PE0/LCD_SEG1, 15 PE1/LCD_SEG2/TIM1_CH2N, 16 PE2/LCD_SEG3/TIM1_CH3N, 17 PE3/LCD_SEG4, 18 PE4/LCD_SEG5, 19 PE5/ADC1_IN23/COMP1_INP/COMP2_INP/LCD_SEG6, 20 PD0/ADC1_IN22/ADC1_TRIG/COMP1_INP/COMP2_INP/LCD_SEG7/TIM3_CH2, 21 PD1/ADC1_IN21/COMP1_INP/COMP2_INP/LCD_COM3/TIM3_ETR, 22 PD2/ADC1_IN20/COMP1_INP/LCD_SEG8/TIM1_CH1, 23 PD3/ADC1_IN19/COMP1_INP/LCD_SEG9/TIM1_ETR, 32 PF0/ADC1_IN24/DAC_OUT, 33 PD4/ADC1_IN10/COMP1_INP/LCD_SEG18/TIM1_CH2, 34 PD5/ADC1_IN9/COMP1_INP/LCD_SEG19/TIM1_CH3, 35 PD6/ADC1_IN8/COMP1_INP/LCD_SEG20/RTC_CALIB/SYS_VREFINT/~{TIM1_BKIN}, 36 PD7/ADC1_IN7/COMP1_INP/LCD_SEG21/RTC_ALARM/SYS_VREFINT/TIM1_CH1N, 47 PE6/LCD_SEG26/SYS_PVD_IN, 48 PE7/LCD_SEG27

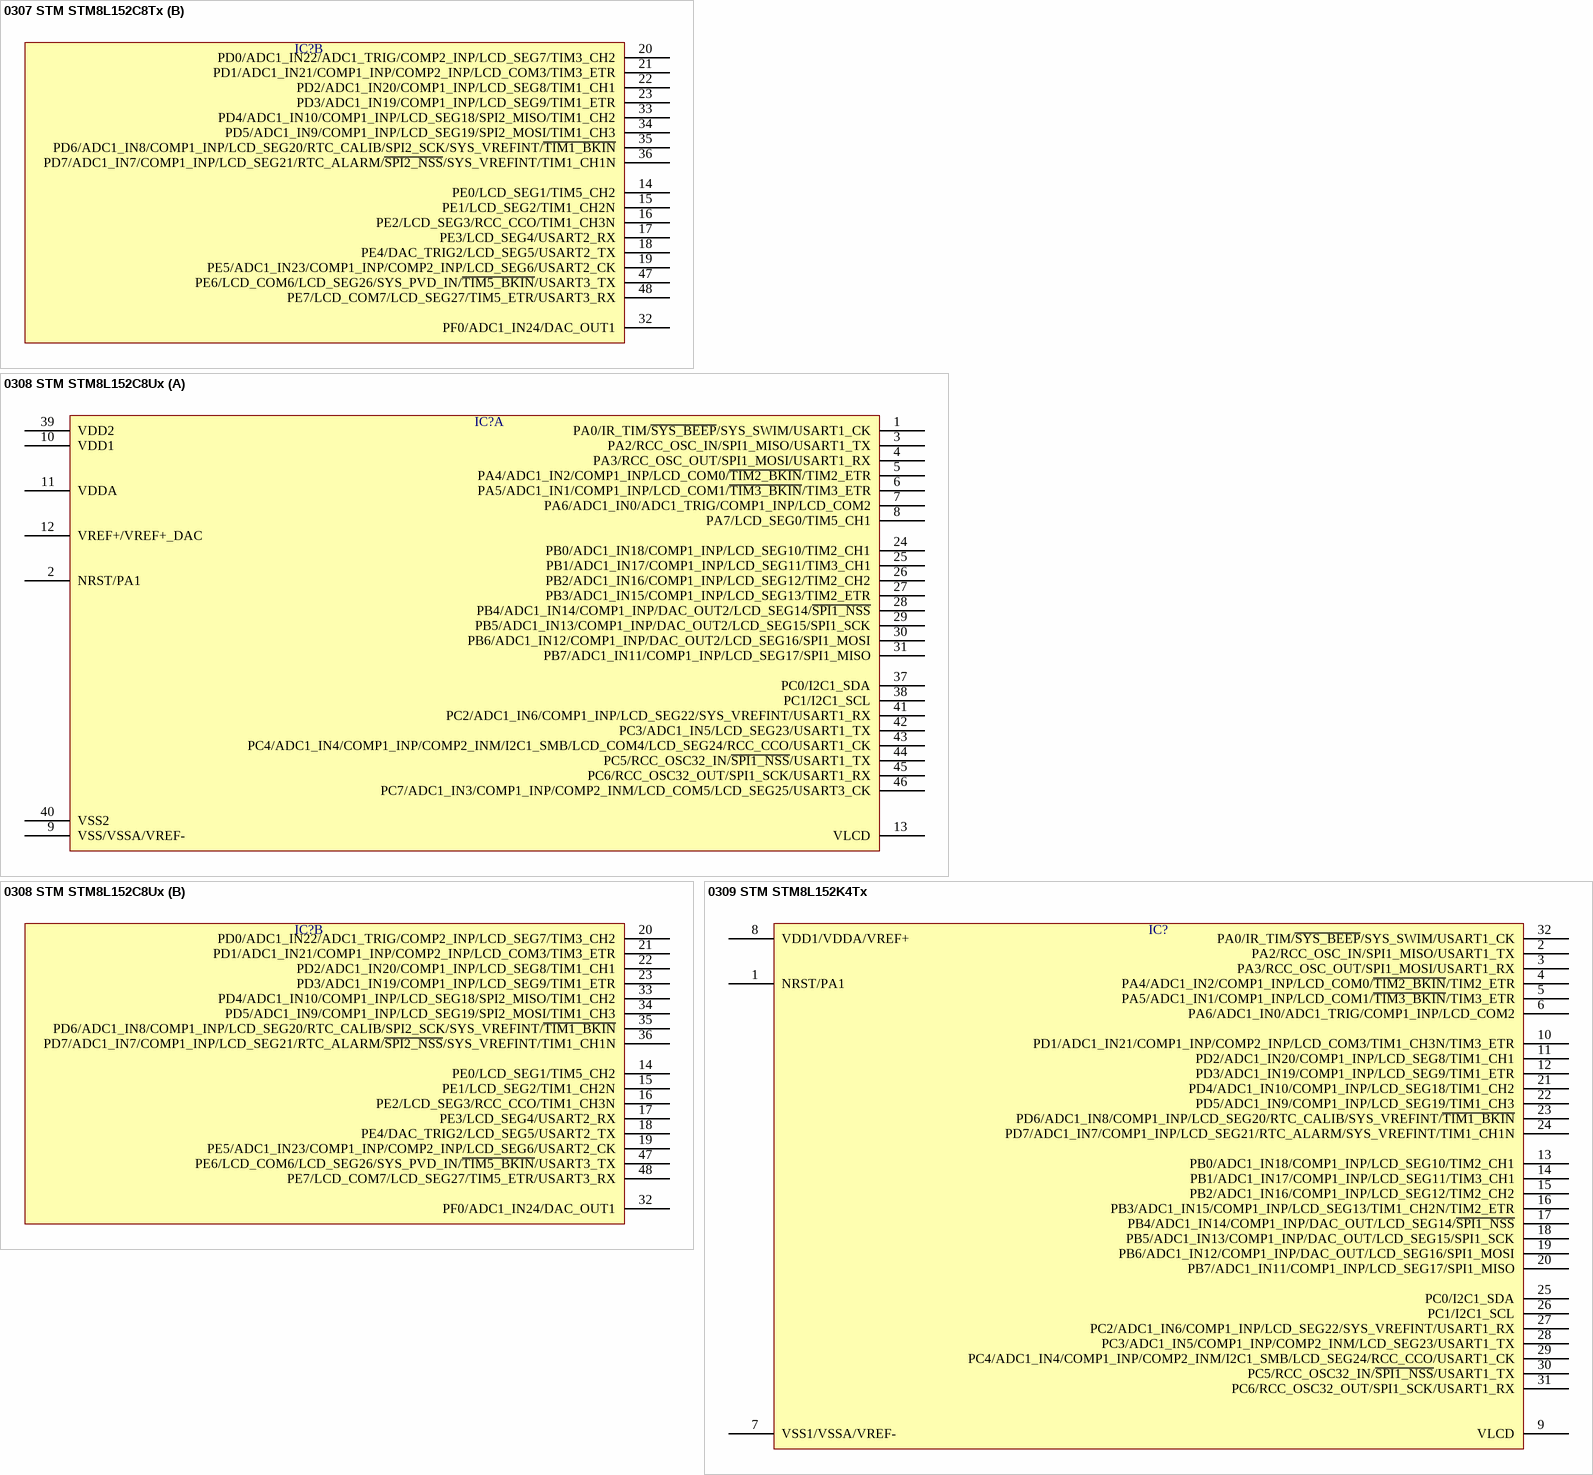
[diagram p133: symbols 0307 STM STM8L152C8Tx to 0309 STM STM8L152K4Tx]

## 0307 STM STM8L152C8Tx
designator IC?  (value not drawn)
part A pins: 1 PA0/IR_TIM/~{SYS_BEEP}/SYS_SWIM/USART1_CK, 2 NRST/PA1, 3 PA2/RCC_OSC_IN/SPI1_MISO/USART1_TX, 4 PA3/RCC_OSC_OUT/SPI1_MOSI/USART1_RX, 5 PA4/ADC1_IN2/COMP1_INP/LCD_COM0/~{TIM2_BKIN}/TIM2_ETR, 6 PA5/ADC1_IN1/COMP1_INP/LCD_COM1/~{TIM3_BKIN}/TIM3_ETR, 7 PA6/ADC1_IN0/ADC1_TRIG/COMP1_INP/LCD_COM2, 8 PA7/LCD_SEG0/TIM5_CH1, 9 VSS/VSSA/VREF-, 10 VDD1, 11 VDDA, 12 VREF+/VREF+_DAC, 13 VLCD, 24 PB0/ADC1_IN18/COMP1_INP/LCD_SEG10/TIM2_CH1, 25 PB1/ADC1_IN17/COMP1_INP/LCD_SEG11/TIM3_CH1, 26 PB2/ADC1_IN16/COMP1_INP/LCD_SEG12/TIM2_CH2, 27 PB3/ADC1_IN15/COMP1_INP/LCD_SEG13/TIM2_ETR, 28 PB4/ADC1_IN14/COMP1_INP/DAC_OUT2/LCD_SEG14/~{SPI1_NSS}, 29 PB5/ADC1_IN13/COMP1_INP/DAC_OUT2/LCD_SEG15/SPI1_SCK, 30 PB6/ADC1_IN12/COMP1_INP/DAC_OUT2/LCD_SEG16/SPI1_MOSI, 31 PB7/ADC1_IN11/COMP1_INP/LCD_SEG17/SPI1_MISO, 37 PC0/I2C1_SDA, 38 PC1/I2C1_SCL, 39 VDD2, 40 VSS2, 41 PC2/ADC1_IN6/COMP1_INP/LCD_SEG22/SYS_VREFINT/USART1_RX, 42 PC3/ADC1_IN5/LCD_SEG23/USART1_TX, 43 PC4/ADC1_IN4/COMP1_INP/COMP2_INM/I2C1_SMB/LCD_COM4/LCD_SEG24/RCC_CCO/USART1_CK, 44 PC5/RCC_OSC32_IN/~{SPI1_NSS}/USART1_TX, 45 PC6/RCC_OSC32_OUT/SPI1_SCK/USART1_RX, 46 PC7/ADC1_IN3/COMP1_INP/COMP2_INM/LCD_COM5/LCD_SEG25/USART3_CK
part B pins: 14 PE0/LCD_SEG1/TIM5_CH2, 15 PE1/LCD_SEG2/TIM1_CH2N, 16 PE2/LCD_SEG3/RCC_CCO/TIM1_CH3N, 17 PE3/LCD_SEG4/USART2_RX, 18 PE4/DAC_TRIG2/LCD_SEG5/USART2_TX, 19 PE5/ADC1_IN23/COMP1_INP/COMP2_INP/LCD_SEG6/USART2_CK, 20 PD0/ADC1_IN22/ADC1_TRIG/COMP2_INP/LCD_SEG7/TIM3_CH2, 21 PD1/ADC1_IN21/COMP1_INP/COMP2_INP/LCD_COM3/TIM3_ETR, 22 PD2/ADC1_IN20/COMP1_INP/LCD_SEG8/TIM1_CH1, 23 PD3/ADC1_IN19/COMP1_INP/LCD_SEG9/TIM1_ETR, 32 PF0/ADC1_IN24/DAC_OUT1, 33 PD4/ADC1_IN10/COMP1_INP/LCD_SEG18/SPI2_MISO/TIM1_CH2, 34 PD5/ADC1_IN9/COMP1_INP/LCD_SEG19/SPI2_MOSI/TIM1_CH3, 35 PD6/ADC1_IN8/COMP1_INP/LCD_SEG20/RTC_CALIB/SPI2_SCK/SYS_VREFINT/~{TIM1_BKIN}, 36 PD7/ADC1_IN7/COMP1_INP/LCD_SEG21/RTC_ALARM/~{SPI2_NSS}/SYS_VREFINT/TIM1_CH1N, 47 PE6/LCD_COM6/LCD_SEG26/SYS_PVD_IN/~{TIM5_BKIN}/USART3_TX, 48 PE7/LCD_COM7/LCD_SEG27/TIM5_ETR/USART3_RX

## 0308 STM STM8L152C8Ux
designator IC?  (value not drawn)
part A pins: 1 PA0/IR_TIM/~{SYS_BEEP}/SYS_SWIM/USART1_CK, 2 NRST/PA1, 3 PA2/RCC_OSC_IN/SPI1_MISO/USART1_TX, 4 PA3/RCC_OSC_OUT/SPI1_MOSI/USART1_RX, 5 PA4/ADC1_IN2/COMP1_INP/LCD_COM0/~{TIM2_BKIN}/TIM2_ETR, 6 PA5/ADC1_IN1/COMP1_INP/LCD_COM1/~{TIM3_BKIN}/TIM3_ETR, 7 PA6/ADC1_IN0/ADC1_TRIG/COMP1_INP/LCD_COM2, 8 PA7/LCD_SEG0/TIM5_CH1, 9 VSS/VSSA/VREF-, 10 VDD1, 11 VDDA, 12 VREF+/VREF+_DAC, 13 VLCD, 24 PB0/ADC1_IN18/COMP1_INP/LCD_SEG10/TIM2_CH1, 25 PB1/ADC1_IN17/COMP1_INP/LCD_SEG11/TIM3_CH1, 26 PB2/ADC1_IN16/COMP1_INP/LCD_SEG12/TIM2_CH2, 27 PB3/ADC1_IN15/COMP1_INP/LCD_SEG13/TIM2_ETR, 28 PB4/ADC1_IN14/COMP1_INP/DAC_OUT2/LCD_SEG14/~{SPI1_NSS}, 29 PB5/ADC1_IN13/COMP1_INP/DAC_OUT2/LCD_SEG15/SPI1_SCK, 30 PB6/ADC1_IN12/COMP1_INP/DAC_OUT2/LCD_SEG16/SPI1_MOSI, 31 PB7/ADC1_IN11/COMP1_INP/LCD_SEG17/SPI1_MISO, 37 PC0/I2C1_SDA, 38 PC1/I2C1_SCL, 39 VDD2, 40 VSS2, 41 PC2/ADC1_IN6/COMP1_INP/LCD_SEG22/SYS_VREFINT/USART1_RX, 42 PC3/ADC1_IN5/LCD_SEG23/USART1_TX, 43 PC4/ADC1_IN4/COMP1_INP/COMP2_INM/I2C1_SMB/LCD_COM4/LCD_SEG24/RCC_CCO/USART1_CK, 44 PC5/RCC_OSC32_IN/~{SPI1_NSS}/USART1_TX, 45 PC6/RCC_OSC32_OUT/SPI1_SCK/USART1_RX, 46 PC7/ADC1_IN3/COMP1_INP/COMP2_INM/LCD_COM5/LCD_SEG25/USART3_CK
part B pins: 14 PE0/LCD_SEG1/TIM5_CH2, 15 PE1/LCD_SEG2/TIM1_CH2N, 16 PE2/LCD_SEG3/RCC_CCO/TIM1_CH3N, 17 PE3/LCD_SEG4/USART2_RX, 18 PE4/DAC_TRIG2/LCD_SEG5/USART2_TX, 19 PE5/ADC1_IN23/COMP1_INP/COMP2_INP/LCD_SEG6/USART2_CK, 20 PD0/ADC1_IN22/ADC1_TRIG/COMP2_INP/LCD_SEG7/TIM3_CH2, 21 PD1/ADC1_IN21/COMP1_INP/COMP2_INP/LCD_COM3/TIM3_ETR, 22 PD2/ADC1_IN20/COMP1_INP/LCD_SEG8/TIM1_CH1, 23 PD3/ADC1_IN19/COMP1_INP/LCD_SEG9/TIM1_ETR, 32 PF0/ADC1_IN24/DAC_OUT1, 33 PD4/ADC1_IN10/COMP1_INP/LCD_SEG18/SPI2_MISO/TIM1_CH2, 34 PD5/ADC1_IN9/COMP1_INP/LCD_SEG19/SPI2_MOSI/TIM1_CH3, 35 PD6/ADC1_IN8/COMP1_INP/LCD_SEG20/RTC_CALIB/SPI2_SCK/SYS_VREFINT/~{TIM1_BKIN}, 36 PD7/ADC1_IN7/COMP1_INP/LCD_SEG21/RTC_ALARM/~{SPI2_NSS}/SYS_VREFINT/TIM1_CH1N, 47 PE6/LCD_COM6/LCD_SEG26/SYS_PVD_IN/~{TIM5_BKIN}/USART3_TX, 48 PE7/LCD_COM7/LCD_SEG27/TIM5_ETR/USART3_RX

## 0309 STM STM8L152K4Tx
designator IC?  (value not drawn)
pins: 1 NRST/PA1, 2 PA2/RCC_OSC_IN/SPI1_MISO/USART1_TX, 3 PA3/RCC_OSC_OUT/SPI1_MOSI/USART1_RX, 4 PA4/ADC1_IN2/COMP1_INP/LCD_COM0/~{TIM2_BKIN}/TIM2_ETR, 5 PA5/ADC1_IN1/COMP1_INP/LCD_COM1/~{TIM3_BKIN}/TIM3_ETR, 6 PA6/ADC1_IN0/ADC1_TRIG/COMP1_INP/LCD_COM2, 7 VSS1/VSSA/VREF-, 8 VDD1/VDDA/VREF+, 9 VLCD, 10 PD1/ADC1_IN21/COMP1_INP/COMP2_INP/LCD_COM3/TIM1_CH3N/TIM3_ETR, 11 PD2/ADC1_IN20/COMP1_INP/LCD_SEG8/TIM1_CH1, 12 PD3/ADC1_IN19/COMP1_INP/LCD_SEG9/TIM1_ETR, 13 PB0/ADC1_IN18/COMP1_INP/LCD_SEG10/TIM2_CH1, 14 PB1/ADC1_IN17/COMP1_INP/LCD_SEG11/TIM3_CH1, 15 PB2/ADC1_IN16/COMP1_INP/LCD_SEG12/TIM2_CH2, 16 PB3/ADC1_IN15/COMP1_INP/LCD_SEG13/TIM1_CH2N/TIM2_ETR, 17 PB4/ADC1_IN14/COMP1_INP/DAC_OUT/LCD_SEG14/~{SPI1_NSS}, 18 PB5/ADC1_IN13/COMP1_INP/DAC_OUT/LCD_SEG15/SPI1_SCK, 19 PB6/ADC1_IN12/COMP1_INP/DAC_OUT/LCD_SEG16/SPI1_MOSI, 20 PB7/ADC1_IN11/COMP1_INP/LCD_SEG17/SPI1_MISO, 21 PD4/ADC1_IN10/COMP1_INP/LCD_SEG18/TIM1_CH2, 22 PD5/ADC1_IN9/COMP1_INP/LCD_SEG19/TIM1_CH3, 23 PD6/ADC1_IN8/COMP1_INP/LCD_SEG20/RTC_CALIB/SYS_VREFINT/~{TIM1_BKIN}, 24 PD7/ADC1_IN7/COMP1_INP/LCD_SEG21/RTC_ALARM/SYS_VREFINT/TIM1_CH1N, 25 PC0/I2C1_SDA, 26 PC1/I2C1_SCL, 27 PC2/ADC1_IN6/COMP1_INP/LCD_SEG22/SYS_VREFINT/USART1_RX, 28 PC3/ADC1_IN5/COMP1_INP/COMP2_INM/LCD_SEG23/USART1_TX, 29 PC4/ADC1_IN4/COMP1_INP/COMP2_INM/I2C1_SMB/LCD_SEG24/RCC_CCO/USART1_CK, 30 PC5/RCC_OSC32_IN/~{SPI1_NSS}/USART1_TX, 31 PC6/RCC_OSC32_OUT/SPI1_SCK/USART1_RX, 32 PA0/IR_TIM/~{SYS_BEEP}/SYS_SWIM/USART1_CK

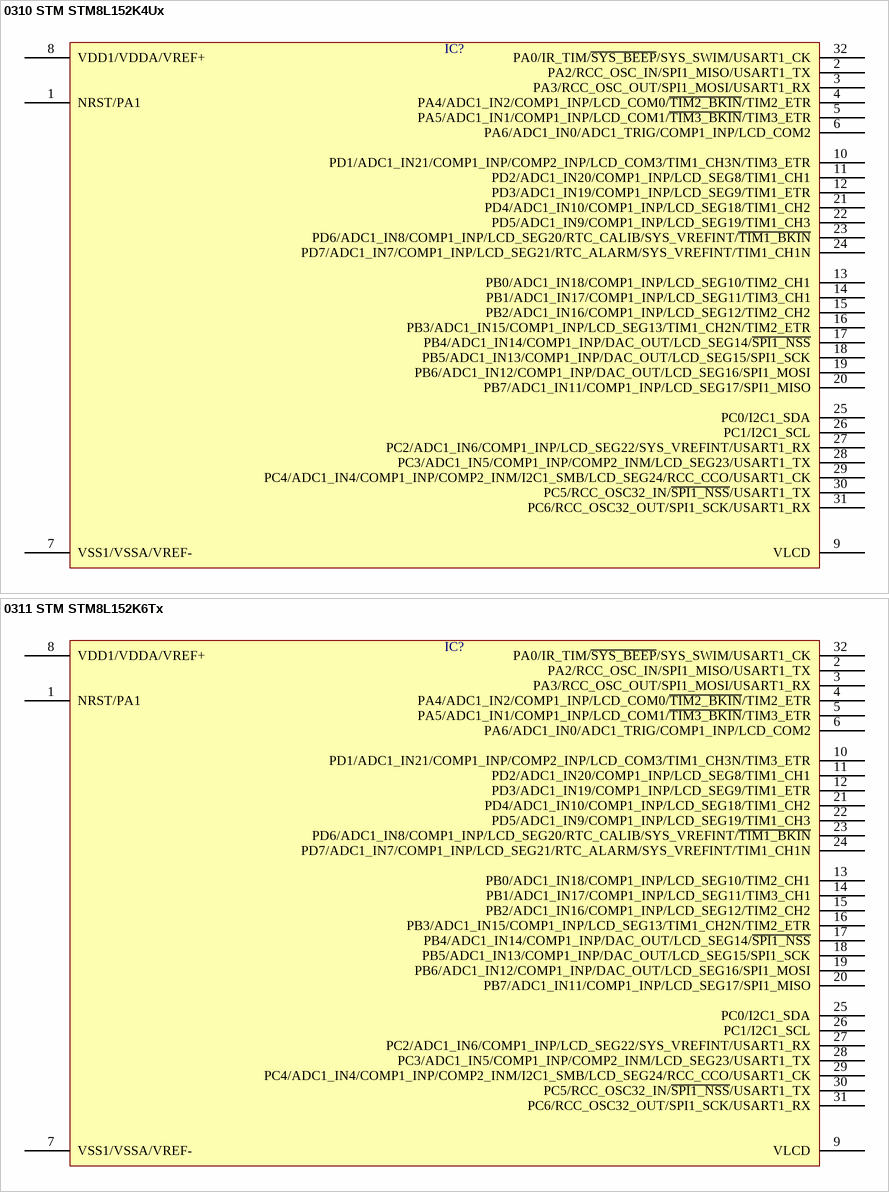
[diagram p134: symbols 0310 STM STM8L152K4Ux to 0311 STM STM8L152K6Tx]

## 0310 STM STM8L152K4Ux
designator IC?  (value not drawn)
pins: 1 NRST/PA1, 2 PA2/RCC_OSC_IN/SPI1_MISO/USART1_TX, 3 PA3/RCC_OSC_OUT/SPI1_MOSI/USART1_RX, 4 PA4/ADC1_IN2/COMP1_INP/LCD_COM0/~{TIM2_BKIN}/TIM2_ETR, 5 PA5/ADC1_IN1/COMP1_INP/LCD_COM1/~{TIM3_BKIN}/TIM3_ETR, 6 PA6/ADC1_IN0/ADC1_TRIG/COMP1_INP/LCD_COM2, 7 VSS1/VSSA/VREF-, 8 VDD1/VDDA/VREF+, 9 VLCD, 10 PD1/ADC1_IN21/COMP1_INP/COMP2_INP/LCD_COM3/TIM1_CH3N/TIM3_ETR, 11 PD2/ADC1_IN20/COMP1_INP/LCD_SEG8/TIM1_CH1, 12 PD3/ADC1_IN19/COMP1_INP/LCD_SEG9/TIM1_ETR, 13 PB0/ADC1_IN18/COMP1_INP/LCD_SEG10/TIM2_CH1, 14 PB1/ADC1_IN17/COMP1_INP/LCD_SEG11/TIM3_CH1, 15 PB2/ADC1_IN16/COMP1_INP/LCD_SEG12/TIM2_CH2, 16 PB3/ADC1_IN15/COMP1_INP/LCD_SEG13/TIM1_CH2N/TIM2_ETR, 17 PB4/ADC1_IN14/COMP1_INP/DAC_OUT/LCD_SEG14/~{SPI1_NSS}, 18 PB5/ADC1_IN13/COMP1_INP/DAC_OUT/LCD_SEG15/SPI1_SCK, 19 PB6/ADC1_IN12/COMP1_INP/DAC_OUT/LCD_SEG16/SPI1_MOSI, 20 PB7/ADC1_IN11/COMP1_INP/LCD_SEG17/SPI1_MISO, 21 PD4/ADC1_IN10/COMP1_INP/LCD_SEG18/TIM1_CH2, 22 PD5/ADC1_IN9/COMP1_INP/LCD_SEG19/TIM1_CH3, 23 PD6/ADC1_IN8/COMP1_INP/LCD_SEG20/RTC_CALIB/SYS_VREFINT/~{TIM1_BKIN}, 24 PD7/ADC1_IN7/COMP1_INP/LCD_SEG21/RTC_ALARM/SYS_VREFINT/TIM1_CH1N, 25 PC0/I2C1_SDA, 26 PC1/I2C1_SCL, 27 PC2/ADC1_IN6/COMP1_INP/LCD_SEG22/SYS_VREFINT/USART1_RX, 28 PC3/ADC1_IN5/COMP1_INP/COMP2_INM/LCD_SEG23/USART1_TX, 29 PC4/ADC1_IN4/COMP1_INP/COMP2_INM/I2C1_SMB/LCD_SEG24/RCC_CCO/USART1_CK, 30 PC5/RCC_OSC32_IN/~{SPI1_NSS}/USART1_TX, 31 PC6/RCC_OSC32_OUT/SPI1_SCK/USART1_RX, 32 PA0/IR_TIM/~{SYS_BEEP}/SYS_SWIM/USART1_CK

## 0311 STM STM8L152K6Tx
designator IC?  (value not drawn)
pins: 1 NRST/PA1, 2 PA2/RCC_OSC_IN/SPI1_MISO/USART1_TX, 3 PA3/RCC_OSC_OUT/SPI1_MOSI/USART1_RX, 4 PA4/ADC1_IN2/COMP1_INP/LCD_COM0/~{TIM2_BKIN}/TIM2_ETR, 5 PA5/ADC1_IN1/COMP1_INP/LCD_COM1/~{TIM3_BKIN}/TIM3_ETR, 6 PA6/ADC1_IN0/ADC1_TRIG/COMP1_INP/LCD_COM2, 7 VSS1/VSSA/VREF-, 8 VDD1/VDDA/VREF+, 9 VLCD, 10 PD1/ADC1_IN21/COMP1_INP/COMP2_INP/LCD_COM3/TIM1_CH3N/TIM3_ETR, 11 PD2/ADC1_IN20/COMP1_INP/LCD_SEG8/TIM1_CH1, 12 PD3/ADC1_IN19/COMP1_INP/LCD_SEG9/TIM1_ETR, 13 PB0/ADC1_IN18/COMP1_INP/LCD_SEG10/TIM2_CH1, 14 PB1/ADC1_IN17/COMP1_INP/LCD_SEG11/TIM3_CH1, 15 PB2/ADC1_IN16/COMP1_INP/LCD_SEG12/TIM2_CH2, 16 PB3/ADC1_IN15/COMP1_INP/LCD_SEG13/TIM1_CH2N/TIM2_ETR, 17 PB4/ADC1_IN14/COMP1_INP/DAC_OUT/LCD_SEG14/~{SPI1_NSS}, 18 PB5/ADC1_IN13/COMP1_INP/DAC_OUT/LCD_SEG15/SPI1_SCK, 19 PB6/ADC1_IN12/COMP1_INP/DAC_OUT/LCD_SEG16/SPI1_MOSI, 20 PB7/ADC1_IN11/COMP1_INP/LCD_SEG17/SPI1_MISO, 21 PD4/ADC1_IN10/COMP1_INP/LCD_SEG18/TIM1_CH2, 22 PD5/ADC1_IN9/COMP1_INP/LCD_SEG19/TIM1_CH3, 23 PD6/ADC1_IN8/COMP1_INP/LCD_SEG20/RTC_CALIB/SYS_VREFINT/~{TIM1_BKIN}, 24 PD7/ADC1_IN7/COMP1_INP/LCD_SEG21/RTC_ALARM/SYS_VREFINT/TIM1_CH1N, 25 PC0/I2C1_SDA, 26 PC1/I2C1_SCL, 27 PC2/ADC1_IN6/COMP1_INP/LCD_SEG22/SYS_VREFINT/USART1_RX, 28 PC3/ADC1_IN5/COMP1_INP/COMP2_INM/LCD_SEG23/USART1_TX, 29 PC4/ADC1_IN4/COMP1_INP/COMP2_INM/I2C1_SMB/LCD_SEG24/RCC_CCO/USART1_CK, 30 PC5/RCC_OSC32_IN/~{SPI1_NSS}/USART1_TX, 31 PC6/RCC_OSC32_OUT/SPI1_SCK/USART1_RX, 32 PA0/IR_TIM/~{SYS_BEEP}/SYS_SWIM/USART1_CK

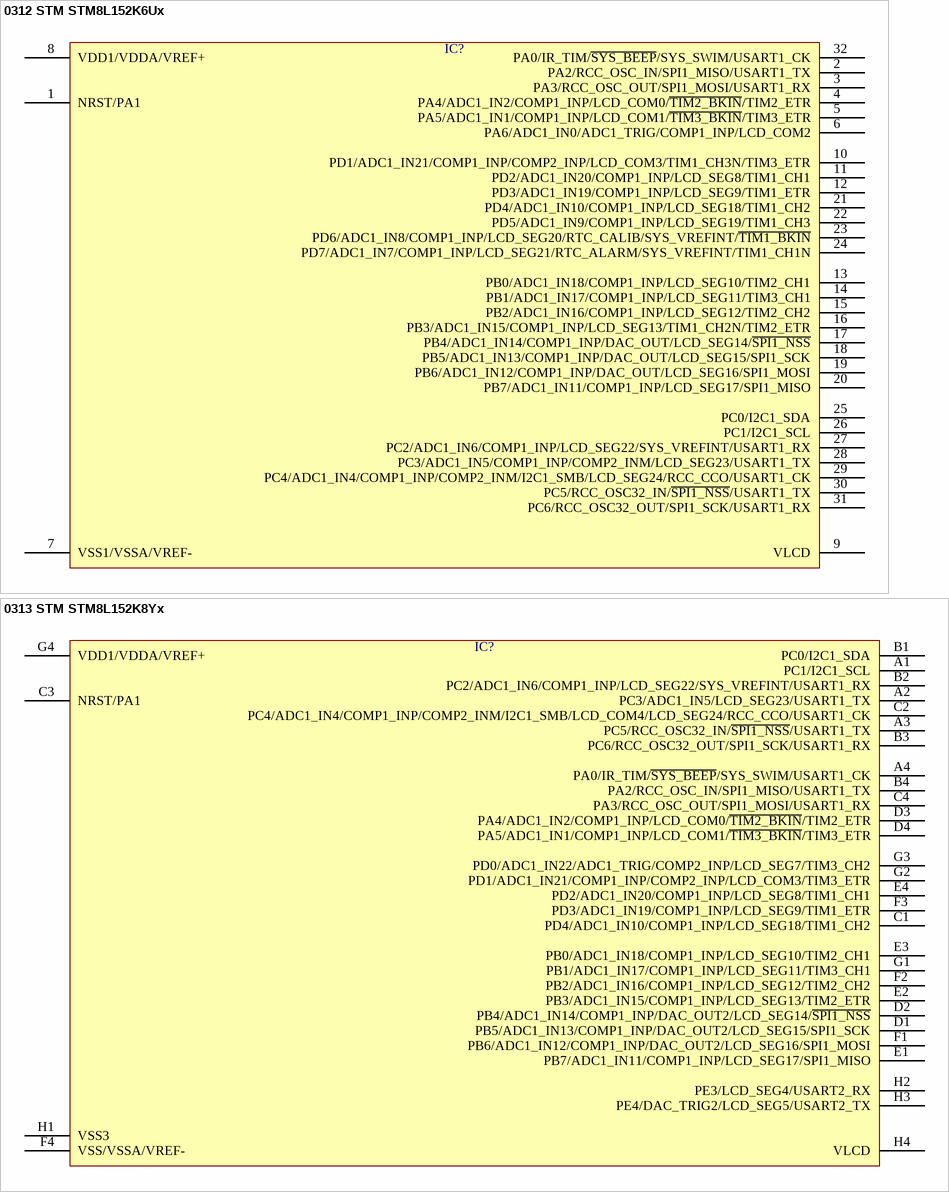
[diagram p135: symbols 0312 STM STM8L152K6Ux to 0313 STM STM8L152K8Yx]

## 0312 STM STM8L152K6Ux
designator IC?  (value not drawn)
pins: 1 NRST/PA1, 2 PA2/RCC_OSC_IN/SPI1_MISO/USART1_TX, 3 PA3/RCC_OSC_OUT/SPI1_MOSI/USART1_RX, 4 PA4/ADC1_IN2/COMP1_INP/LCD_COM0/~{TIM2_BKIN}/TIM2_ETR, 5 PA5/ADC1_IN1/COMP1_INP/LCD_COM1/~{TIM3_BKIN}/TIM3_ETR, 6 PA6/ADC1_IN0/ADC1_TRIG/COMP1_INP/LCD_COM2, 7 VSS1/VSSA/VREF-, 8 VDD1/VDDA/VREF+, 9 VLCD, 10 PD1/ADC1_IN21/COMP1_INP/COMP2_INP/LCD_COM3/TIM1_CH3N/TIM3_ETR, 11 PD2/ADC1_IN20/COMP1_INP/LCD_SEG8/TIM1_CH1, 12 PD3/ADC1_IN19/COMP1_INP/LCD_SEG9/TIM1_ETR, 13 PB0/ADC1_IN18/COMP1_INP/LCD_SEG10/TIM2_CH1, 14 PB1/ADC1_IN17/COMP1_INP/LCD_SEG11/TIM3_CH1, 15 PB2/ADC1_IN16/COMP1_INP/LCD_SEG12/TIM2_CH2, 16 PB3/ADC1_IN15/COMP1_INP/LCD_SEG13/TIM1_CH2N/TIM2_ETR, 17 PB4/ADC1_IN14/COMP1_INP/DAC_OUT/LCD_SEG14/~{SPI1_NSS}, 18 PB5/ADC1_IN13/COMP1_INP/DAC_OUT/LCD_SEG15/SPI1_SCK, 19 PB6/ADC1_IN12/COMP1_INP/DAC_OUT/LCD_SEG16/SPI1_MOSI, 20 PB7/ADC1_IN11/COMP1_INP/LCD_SEG17/SPI1_MISO, 21 PD4/ADC1_IN10/COMP1_INP/LCD_SEG18/TIM1_CH2, 22 PD5/ADC1_IN9/COMP1_INP/LCD_SEG19/TIM1_CH3, 23 PD6/ADC1_IN8/COMP1_INP/LCD_SEG20/RTC_CALIB/SYS_VREFINT/~{TIM1_BKIN}, 24 PD7/ADC1_IN7/COMP1_INP/LCD_SEG21/RTC_ALARM/SYS_VREFINT/TIM1_CH1N, 25 PC0/I2C1_SDA, 26 PC1/I2C1_SCL, 27 PC2/ADC1_IN6/COMP1_INP/LCD_SEG22/SYS_VREFINT/USART1_RX, 28 PC3/ADC1_IN5/COMP1_INP/COMP2_INM/LCD_SEG23/USART1_TX, 29 PC4/ADC1_IN4/COMP1_INP/COMP2_INM/I2C1_SMB/LCD_SEG24/RCC_CCO/USART1_CK, 30 PC5/RCC_OSC32_IN/~{SPI1_NSS}/USART1_TX, 31 PC6/RCC_OSC32_OUT/SPI1_SCK/USART1_RX, 32 PA0/IR_TIM/~{SYS_BEEP}/SYS_SWIM/USART1_CK

## 0313 STM STM8L152K8Yx
designator IC?  (value not drawn)
pins: A1 PC1/I2C1_SCL, A2 PC3/ADC1_IN5/LCD_SEG23/USART1_TX, A3 PC5/RCC_OSC32_IN/~{SPI1_NSS}/USART1_TX, A4 PA0/IR_TIM/~{SYS_BEEP}/SYS_SWIM/USART1_CK, B1 PC0/I2C1_SDA, B2 PC2/ADC1_IN6/COMP1_INP/LCD_SEG22/SYS_VREFINT/USART1_RX, B3 PC6/RCC_OSC32_OUT/SPI1_SCK/USART1_RX, B4 PA2/RCC_OSC_IN/SPI1_MISO/USART1_TX, C1 PD4/ADC1_IN10/COMP1_INP/LCD_SEG18/TIM1_CH2, C2 PC4/ADC1_IN4/COMP1_INP/COMP2_INM/I2C1_SMB/LCD_COM4/LCD_SEG24/RCC_CCO/USART1_CK, C3 NRST/PA1, C4 PA3/RCC_OSC_OUT/SPI1_MOSI/USART1_RX, D1 PB5/ADC1_IN13/COMP1_INP/DAC_OUT2/LCD_SEG15/SPI1_SCK, D2 PB4/ADC1_IN14/COMP1_INP/DAC_OUT2/LCD_SEG14/~{SPI1_NSS}, D3 PA4/ADC1_IN2/COMP1_INP/LCD_COM0/~{TIM2_BKIN}/TIM2_ETR, D4 PA5/ADC1_IN1/COMP1_INP/LCD_COM1/~{TIM3_BKIN}/TIM3_ETR, E1 PB7/ADC1_IN11/COMP1_INP/LCD_SEG17/SPI1_MISO, E2 PB3/ADC1_IN15/COMP1_INP/LCD_SEG13/TIM2_ETR, E3 PB0/ADC1_IN18/COMP1_INP/LCD_SEG10/TIM2_CH1, E4 PD2/ADC1_IN20/COMP1_INP/LCD_SEG8/TIM1_CH1, F1 PB6/ADC1_IN12/COMP1_INP/DAC_OUT2/LCD_SEG16/SPI1_MOSI, F2 PB2/ADC1_IN16/COMP1_INP/LCD_SEG12/TIM2_CH2, F3 PD3/ADC1_IN19/COMP1_INP/LCD_SEG9/TIM1_ETR, F4 VSS/VSSA/VREF-, G1 PB1/ADC1_IN17/COMP1_INP/LCD_SEG11/TIM3_CH1, G2 PD1/ADC1_IN21/COMP1_INP/COMP2_INP/LCD_COM3/TIM3_ETR, G3 PD0/ADC1_IN22/ADC1_TRIG/COMP2_INP/LCD_SEG7/TIM3_CH2, G4 VDD1/VDDA/VREF+, H1 VSS3, H2 PE3/LCD_SEG4/USART2_RX, H3 PE4/DAC_TRIG2/LCD_SEG5/USART2_TX, H4 VLCD

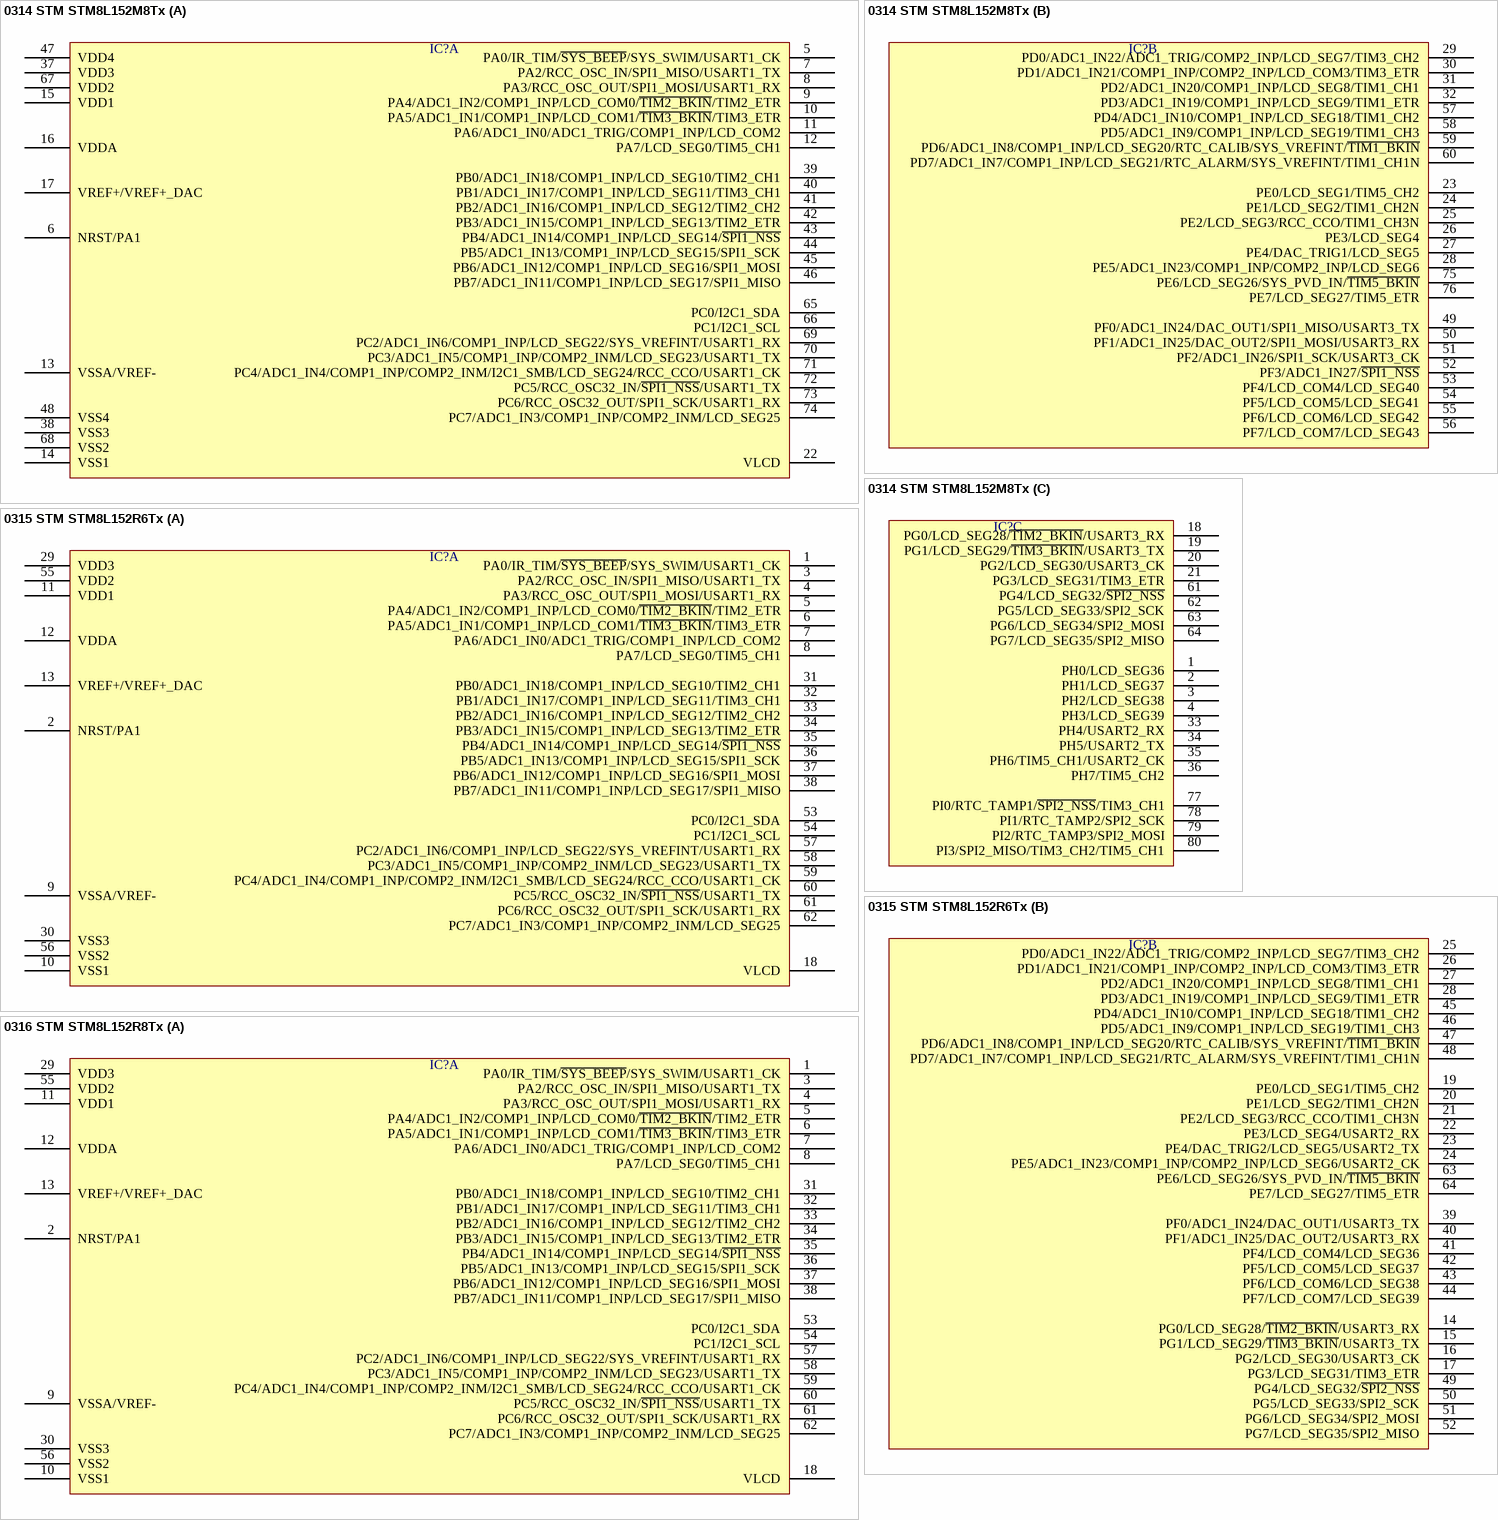
[diagram p136: symbols 0314 STM STM8L152M8Tx to 0316 STM STM8L152R8Tx]

## 0314 STM STM8L152M8Tx
designator IC?  (value not drawn)
part A pins: 5 PA0/IR_TIM/~{SYS_BEEP}/SYS_SWIM/USART1_CK, 6 NRST/PA1, 7 PA2/RCC_OSC_IN/SPI1_MISO/USART1_TX, 8 PA3/RCC_OSC_OUT/SPI1_MOSI/USART1_RX, 9 PA4/ADC1_IN2/COMP1_INP/LCD_COM0/~{TIM2_BKIN}/TIM2_ETR, 10 PA5/ADC1_IN1/COMP1_INP/LCD_COM1/~{TIM3_BKIN}/TIM3_ETR, 11 PA6/ADC1_IN0/ADC1_TRIG/COMP1_INP/LCD_COM2, 12 PA7/LCD_SEG0/TIM5_CH1, 13 VSSA/VREF-, 14 VSS1, 15 VDD1, 16 VDDA, 17 VREF+/VREF+_DAC, 22 VLCD, 37 VDD3, 38 VSS3, 39 PB0/ADC1_IN18/COMP1_INP/LCD_SEG10/TIM2_CH1, 40 PB1/ADC1_IN17/COMP1_INP/LCD_SEG11/TIM3_CH1, 41 PB2/ADC1_IN16/COMP1_INP/LCD_SEG12/TIM2_CH2, 42 PB3/ADC1_IN15/COMP1_INP/LCD_SEG13/TIM2_ETR, 43 PB4/ADC1_IN14/COMP1_INP/LCD_SEG14/~{SPI1_NSS}, 44 PB5/ADC1_IN13/COMP1_INP/LCD_SEG15/SPI1_SCK, 45 PB6/ADC1_IN12/COMP1_INP/LCD_SEG16/SPI1_MOSI, 46 PB7/ADC1_IN11/COMP1_INP/LCD_SEG17/SPI1_MISO, 47 VDD4, 48 VSS4, 65 PC0/I2C1_SDA, 66 PC1/I2C1_SCL, 67 VDD2, 68 VSS2, 69 PC2/ADC1_IN6/COMP1_INP/LCD_SEG22/SYS_VREFINT/USART1_RX, 70 PC3/ADC1_IN5/COMP1_INP/COMP2_INM/LCD_SEG23/USART1_TX, 71 PC4/ADC1_IN4/COMP1_INP/COMP2_INM/I2C1_SMB/LCD_SEG24/RCC_CCO/USART1_CK, 72 PC5/RCC_OSC32_IN/~{SPI1_NSS}/USART1_TX, 73 PC6/RCC_OSC32_OUT/SPI1_SCK/USART1_RX, 74 PC7/ADC1_IN3/COMP1_INP/COMP2_INM/LCD_SEG25
part B pins: 23 PE0/LCD_SEG1/TIM5_CH2, 24 PE1/LCD_SEG2/TIM1_CH2N, 25 PE2/LCD_SEG3/RCC_CCO/TIM1_CH3N, 26 PE3/LCD_SEG4, 27 PE4/DAC_TRIG1/LCD_SEG5, 28 PE5/ADC1_IN23/COMP1_INP/COMP2_INP/LCD_SEG6, 29 PD0/ADC1_IN22/ADC1_TRIG/COMP2_INP/LCD_SEG7/TIM3_CH2, 30 PD1/ADC1_IN21/COMP1_INP/COMP2_INP/LCD_COM3/TIM3_ETR, 31 PD2/ADC1_IN20/COMP1_INP/LCD_SEG8/TIM1_CH1, 32 PD3/ADC1_IN19/COMP1_INP/LCD_SEG9/TIM1_ETR, 49 PF0/ADC1_IN24/DAC_OUT1/SPI1_MISO/USART3_TX, 50 PF1/ADC1_IN25/DAC_OUT2/SPI1_MOSI/USART3_RX, 51 PF2/ADC1_IN26/SPI1_SCK/USART3_CK, 52 PF3/ADC1_IN27/~{SPI1_NSS}, 53 PF4/LCD_COM4/LCD_SEG40, 54 PF5/LCD_COM5/LCD_SEG41, 55 PF6/LCD_COM6/LCD_SEG42, 56 PF7/LCD_COM7/LCD_SEG43, 57 PD4/ADC1_IN10/COMP1_INP/LCD_SEG18/TIM1_CH2, 58 PD5/ADC1_IN9/COMP1_INP/LCD_SEG19/TIM1_CH3, 59 PD6/ADC1_IN8/COMP1_INP/LCD_SEG20/RTC_CALIB/SYS_VREFINT/~{TIM1_BKIN}, 60 PD7/ADC1_IN7/COMP1_INP/LCD_SEG21/RTC_ALARM/SYS_VREFINT/TIM1_CH1N, 75 PE6/LCD_SEG26/SYS_PVD_IN/~{TIM5_BKIN}, 76 PE7/LCD_SEG27/TIM5_ETR
part C pins: 1 PH0/LCD_SEG36, 2 PH1/LCD_SEG37, 3 PH2/LCD_SEG38, 4 PH3/LCD_SEG39, 18 PG0/LCD_SEG28/~{TIM2_BKIN}/USART3_RX, 19 PG1/LCD_SEG29/~{TIM3_BKIN}/USART3_TX, 20 PG2/LCD_SEG30/USART3_CK, 21 PG3/LCD_SEG31/TIM3_ETR, 33 PH4/USART2_RX, 34 PH5/USART2_TX, 35 PH6/TIM5_CH1/USART2_CK, 36 PH7/TIM5_CH2, 61 PG4/LCD_SEG32/~{SPI2_NSS}, 62 PG5/LCD_SEG33/SPI2_SCK, 63 PG6/LCD_SEG34/SPI2_MOSI, 64 PG7/LCD_SEG35/SPI2_MISO, 77 PI0/RTC_TAMP1/~{SPI2_NSS}/TIM3_CH1, 78 PI1/RTC_TAMP2/SPI2_SCK, 79 PI2/RTC_TAMP3/SPI2_MOSI, 80 PI3/SPI2_MISO/TIM3_CH2/TIM5_CH1

## 0315 STM STM8L152R6Tx
designator IC?  (value not drawn)
part A pins: 1 PA0/IR_TIM/~{SYS_BEEP}/SYS_SWIM/USART1_CK, 2 NRST/PA1, 3 PA2/RCC_OSC_IN/SPI1_MISO/USART1_TX, 4 PA3/RCC_OSC_OUT/SPI1_MOSI/USART1_RX, 5 PA4/ADC1_IN2/COMP1_INP/LCD_COM0/~{TIM2_BKIN}/TIM2_ETR, 6 PA5/ADC1_IN1/COMP1_INP/LCD_COM1/~{TIM3_BKIN}/TIM3_ETR, 7 PA6/ADC1_IN0/ADC1_TRIG/COMP1_INP/LCD_COM2, 8 PA7/LCD_SEG0/TIM5_CH1, 9 VSSA/VREF-, 10 VSS1, 11 VDD1, 12 VDDA, 13 VREF+/VREF+_DAC, 18 VLCD, 29 VDD3, 30 VSS3, 31 PB0/ADC1_IN18/COMP1_INP/LCD_SEG10/TIM2_CH1, 32 PB1/ADC1_IN17/COMP1_INP/LCD_SEG11/TIM3_CH1, 33 PB2/ADC1_IN16/COMP1_INP/LCD_SEG12/TIM2_CH2, 34 PB3/ADC1_IN15/COMP1_INP/LCD_SEG13/TIM2_ETR, 35 PB4/ADC1_IN14/COMP1_INP/LCD_SEG14/~{SPI1_NSS}, 36 PB5/ADC1_IN13/COMP1_INP/LCD_SEG15/SPI1_SCK, 37 PB6/ADC1_IN12/COMP1_INP/LCD_SEG16/SPI1_MOSI, 38 PB7/ADC1_IN11/COMP1_INP/LCD_SEG17/SPI1_MISO, 53 PC0/I2C1_SDA, 54 PC1/I2C1_SCL, 55 VDD2, 56 VSS2, 57 PC2/ADC1_IN6/COMP1_INP/LCD_SEG22/SYS_VREFINT/USART1_RX, 58 PC3/ADC1_IN5/COMP1_INP/COMP2_INM/LCD_SEG23/USART1_TX, 59 PC4/ADC1_IN4/COMP1_INP/COMP2_INM/I2C1_SMB/LCD_SEG24/RCC_CCO/USART1_CK, 60 PC5/RCC_OSC32_IN/~{SPI1_NSS}/USART1_TX, 61 PC6/RCC_OSC32_OUT/SPI1_SCK/USART1_RX, 62 PC7/ADC1_IN3/COMP1_INP/COMP2_INM/LCD_SEG25
part B pins: 14 PG0/LCD_SEG28/~{TIM2_BKIN}/USART3_RX, 15 PG1/LCD_SEG29/~{TIM3_BKIN}/USART3_TX, 16 PG2/LCD_SEG30/USART3_CK, 17 PG3/LCD_SEG31/TIM3_ETR, 19 PE0/LCD_SEG1/TIM5_CH2, 20 PE1/LCD_SEG2/TIM1_CH2N, 21 PE2/LCD_SEG3/RCC_CCO/TIM1_CH3N, 22 PE3/LCD_SEG4/USART2_RX, 23 PE4/DAC_TRIG2/LCD_SEG5/USART2_TX, 24 PE5/ADC1_IN23/COMP1_INP/COMP2_INP/LCD_SEG6/USART2_CK, 25 PD0/ADC1_IN22/ADC1_TRIG/COMP2_INP/LCD_SEG7/TIM3_CH2, 26 PD1/ADC1_IN21/COMP1_INP/COMP2_INP/LCD_COM3/TIM3_ETR, 27 PD2/ADC1_IN20/COMP1_INP/LCD_SEG8/TIM1_CH1, 28 PD3/ADC1_IN19/COMP1_INP/LCD_SEG9/TIM1_ETR, 39 PF0/ADC1_IN24/DAC_OUT1/USART3_TX, 40 PF1/ADC1_IN25/DAC_OUT2/USART3_RX, 41 PF4/LCD_COM4/LCD_SEG36, 42 PF5/LCD_COM5/LCD_SEG37, 43 PF6/LCD_COM6/LCD_SEG38, 44 PF7/LCD_COM7/LCD_SEG39, 45 PD4/ADC1_IN10/COMP1_INP/LCD_SEG18/TIM1_CH2, 46 PD5/ADC1_IN9/COMP1_INP/LCD_SEG19/TIM1_CH3, 47 PD6/ADC1_IN8/COMP1_INP/LCD_SEG20/RTC_CALIB/SYS_VREFINT/~{TIM1_BKIN}, 48 PD7/ADC1_IN7/COMP1_INP/LCD_SEG21/RTC_ALARM/SYS_VREFINT/TIM1_CH1N, 49 PG4/LCD_SEG32/~{SPI2_NSS}, 50 PG5/LCD_SEG33/SPI2_SCK, 51 PG6/LCD_SEG34/SPI2_MOSI, 52 PG7/LCD_SEG35/SPI2_MISO, 63 PE6/LCD_SEG26/SYS_PVD_IN/~{TIM5_BKIN}, 64 PE7/LCD_SEG27/TIM5_ETR

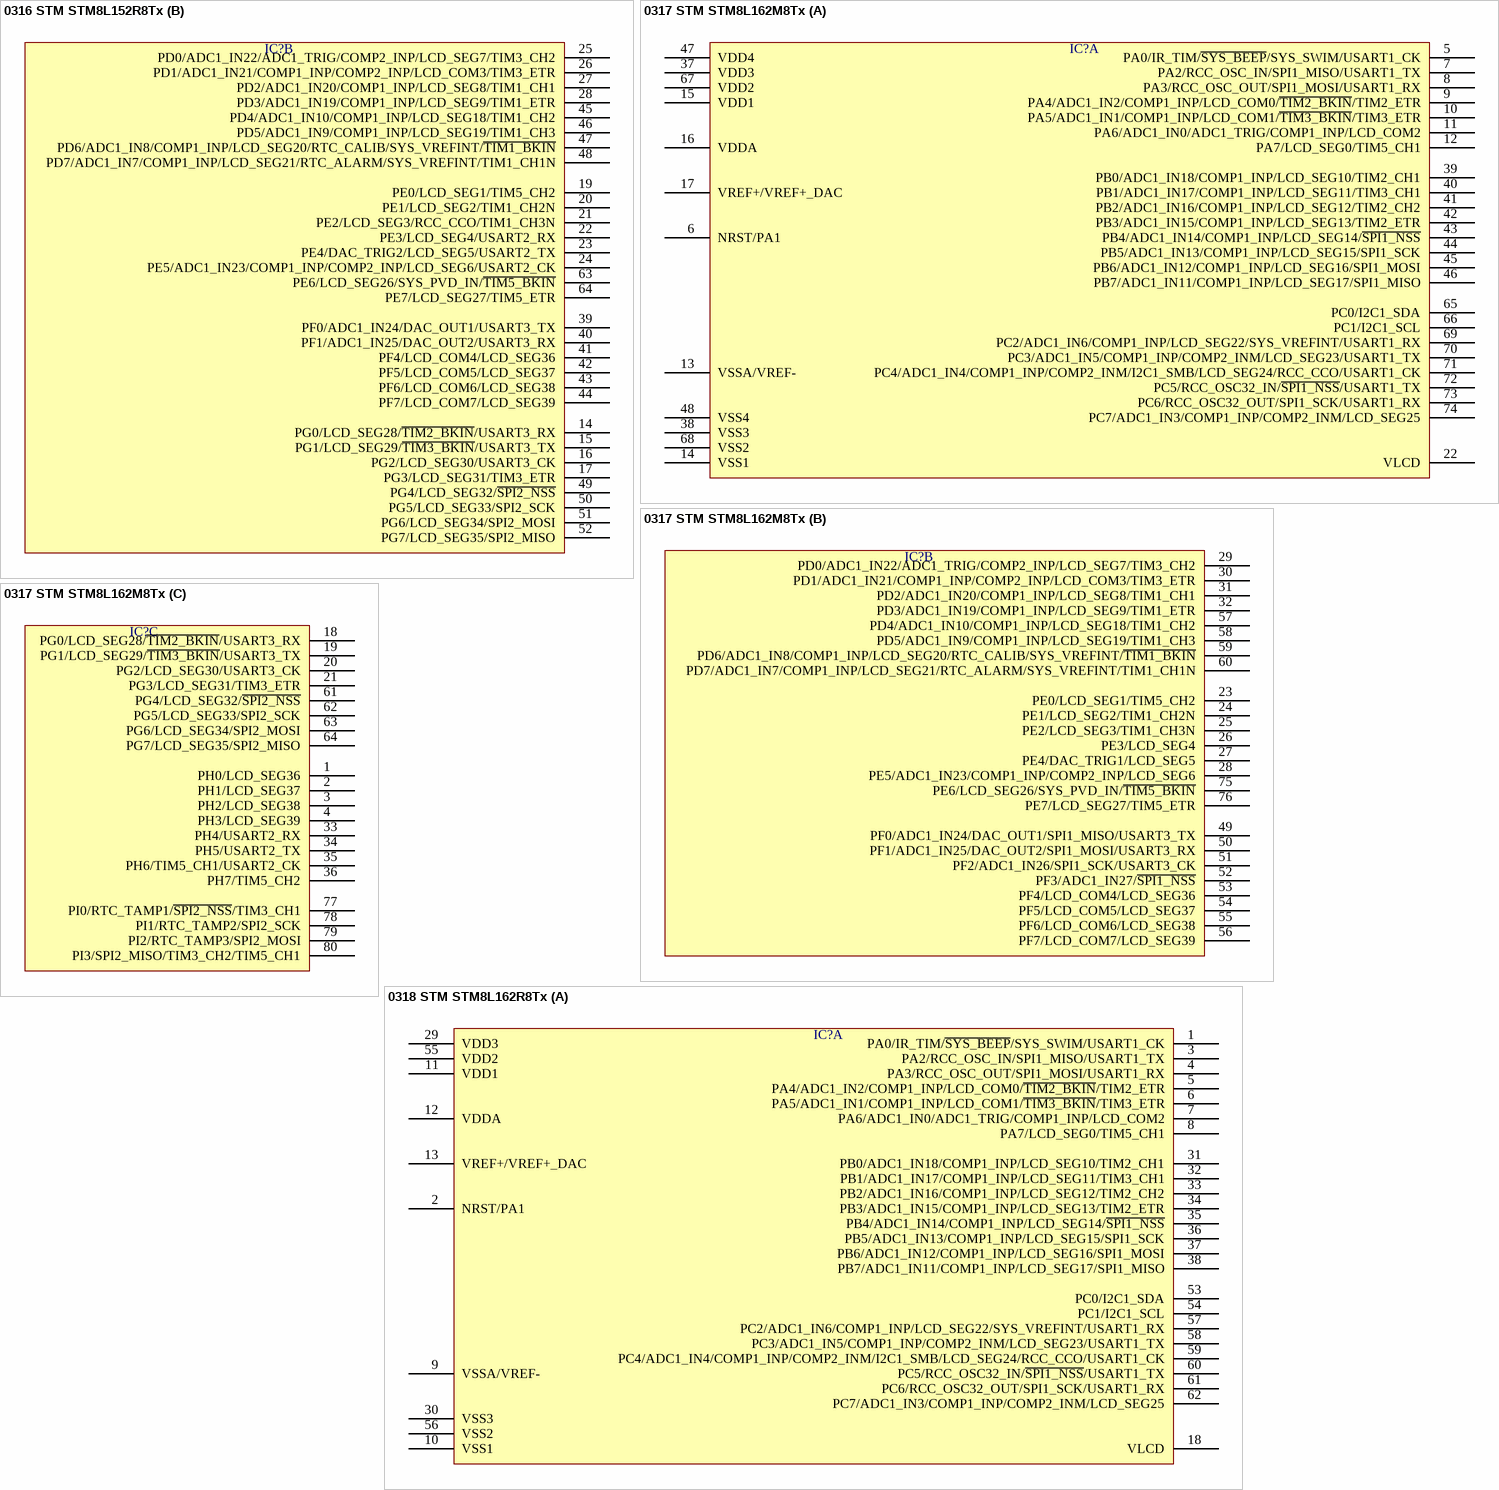
[diagram p137: symbols 0316 STM STM8L152R8Tx to 0318 STM STM8L162R8Tx]

## 0316 STM STM8L152R8Tx
designator IC?  (value not drawn)
part A pins: 1 PA0/IR_TIM/~{SYS_BEEP}/SYS_SWIM/USART1_CK, 2 NRST/PA1, 3 PA2/RCC_OSC_IN/SPI1_MISO/USART1_TX, 4 PA3/RCC_OSC_OUT/SPI1_MOSI/USART1_RX, 5 PA4/ADC1_IN2/COMP1_INP/LCD_COM0/~{TIM2_BKIN}/TIM2_ETR, 6 PA5/ADC1_IN1/COMP1_INP/LCD_COM1/~{TIM3_BKIN}/TIM3_ETR, 7 PA6/ADC1_IN0/ADC1_TRIG/COMP1_INP/LCD_COM2, 8 PA7/LCD_SEG0/TIM5_CH1, 9 VSSA/VREF-, 10 VSS1, 11 VDD1, 12 VDDA, 13 VREF+/VREF+_DAC, 18 VLCD, 29 VDD3, 30 VSS3, 31 PB0/ADC1_IN18/COMP1_INP/LCD_SEG10/TIM2_CH1, 32 PB1/ADC1_IN17/COMP1_INP/LCD_SEG11/TIM3_CH1, 33 PB2/ADC1_IN16/COMP1_INP/LCD_SEG12/TIM2_CH2, 34 PB3/ADC1_IN15/COMP1_INP/LCD_SEG13/TIM2_ETR, 35 PB4/ADC1_IN14/COMP1_INP/LCD_SEG14/~{SPI1_NSS}, 36 PB5/ADC1_IN13/COMP1_INP/LCD_SEG15/SPI1_SCK, 37 PB6/ADC1_IN12/COMP1_INP/LCD_SEG16/SPI1_MOSI, 38 PB7/ADC1_IN11/COMP1_INP/LCD_SEG17/SPI1_MISO, 53 PC0/I2C1_SDA, 54 PC1/I2C1_SCL, 55 VDD2, 56 VSS2, 57 PC2/ADC1_IN6/COMP1_INP/LCD_SEG22/SYS_VREFINT/USART1_RX, 58 PC3/ADC1_IN5/COMP1_INP/COMP2_INM/LCD_SEG23/USART1_TX, 59 PC4/ADC1_IN4/COMP1_INP/COMP2_INM/I2C1_SMB/LCD_SEG24/RCC_CCO/USART1_CK, 60 PC5/RCC_OSC32_IN/~{SPI1_NSS}/USART1_TX, 61 PC6/RCC_OSC32_OUT/SPI1_SCK/USART1_RX, 62 PC7/ADC1_IN3/COMP1_INP/COMP2_INM/LCD_SEG25
part B pins: 14 PG0/LCD_SEG28/~{TIM2_BKIN}/USART3_RX, 15 PG1/LCD_SEG29/~{TIM3_BKIN}/USART3_TX, 16 PG2/LCD_SEG30/USART3_CK, 17 PG3/LCD_SEG31/TIM3_ETR, 19 PE0/LCD_SEG1/TIM5_CH2, 20 PE1/LCD_SEG2/TIM1_CH2N, 21 PE2/LCD_SEG3/RCC_CCO/TIM1_CH3N, 22 PE3/LCD_SEG4/USART2_RX, 23 PE4/DAC_TRIG2/LCD_SEG5/USART2_TX, 24 PE5/ADC1_IN23/COMP1_INP/COMP2_INP/LCD_SEG6/USART2_CK, 25 PD0/ADC1_IN22/ADC1_TRIG/COMP2_INP/LCD_SEG7/TIM3_CH2, 26 PD1/ADC1_IN21/COMP1_INP/COMP2_INP/LCD_COM3/TIM3_ETR, 27 PD2/ADC1_IN20/COMP1_INP/LCD_SEG8/TIM1_CH1, 28 PD3/ADC1_IN19/COMP1_INP/LCD_SEG9/TIM1_ETR, 39 PF0/ADC1_IN24/DAC_OUT1/USART3_TX, 40 PF1/ADC1_IN25/DAC_OUT2/USART3_RX, 41 PF4/LCD_COM4/LCD_SEG36, 42 PF5/LCD_COM5/LCD_SEG37, 43 PF6/LCD_COM6/LCD_SEG38, 44 PF7/LCD_COM7/LCD_SEG39, 45 PD4/ADC1_IN10/COMP1_INP/LCD_SEG18/TIM1_CH2, 46 PD5/ADC1_IN9/COMP1_INP/LCD_SEG19/TIM1_CH3, 47 PD6/ADC1_IN8/COMP1_INP/LCD_SEG20/RTC_CALIB/SYS_VREFINT/~{TIM1_BKIN}, 48 PD7/ADC1_IN7/COMP1_INP/LCD_SEG21/RTC_ALARM/SYS_VREFINT/TIM1_CH1N, 49 PG4/LCD_SEG32/~{SPI2_NSS}, 50 PG5/LCD_SEG33/SPI2_SCK, 51 PG6/LCD_SEG34/SPI2_MOSI, 52 PG7/LCD_SEG35/SPI2_MISO, 63 PE6/LCD_SEG26/SYS_PVD_IN/~{TIM5_BKIN}, 64 PE7/LCD_SEG27/TIM5_ETR

## 0317 STM STM8L162M8Tx
designator IC?  (value not drawn)
part A pins: 5 PA0/IR_TIM/~{SYS_BEEP}/SYS_SWIM/USART1_CK, 6 NRST/PA1, 7 PA2/RCC_OSC_IN/SPI1_MISO/USART1_TX, 8 PA3/RCC_OSC_OUT/SPI1_MOSI/USART1_RX, 9 PA4/ADC1_IN2/COMP1_INP/LCD_COM0/~{TIM2_BKIN}/TIM2_ETR, 10 PA5/ADC1_IN1/COMP1_INP/LCD_COM1/~{TIM3_BKIN}/TIM3_ETR, 11 PA6/ADC1_IN0/ADC1_TRIG/COMP1_INP/LCD_COM2, 12 PA7/LCD_SEG0/TIM5_CH1, 13 VSSA/VREF-, 14 VSS1, 15 VDD1, 16 VDDA, 17 VREF+/VREF+_DAC, 22 VLCD, 37 VDD3, 38 VSS3, 39 PB0/ADC1_IN18/COMP1_INP/LCD_SEG10/TIM2_CH1, 40 PB1/ADC1_IN17/COMP1_INP/LCD_SEG11/TIM3_CH1, 41 PB2/ADC1_IN16/COMP1_INP/LCD_SEG12/TIM2_CH2, 42 PB3/ADC1_IN15/COMP1_INP/LCD_SEG13/TIM2_ETR, 43 PB4/ADC1_IN14/COMP1_INP/LCD_SEG14/~{SPI1_NSS}, 44 PB5/ADC1_IN13/COMP1_INP/LCD_SEG15/SPI1_SCK, 45 PB6/ADC1_IN12/COMP1_INP/LCD_SEG16/SPI1_MOSI, 46 PB7/ADC1_IN11/COMP1_INP/LCD_SEG17/SPI1_MISO, 47 VDD4, 48 VSS4, 65 PC0/I2C1_SDA, 66 PC1/I2C1_SCL, 67 VDD2, 68 VSS2, 69 PC2/ADC1_IN6/COMP1_INP/LCD_SEG22/SYS_VREFINT/USART1_RX, 70 PC3/ADC1_IN5/COMP1_INP/COMP2_INM/LCD_SEG23/USART1_TX, 71 PC4/ADC1_IN4/COMP1_INP/COMP2_INM/I2C1_SMB/LCD_SEG24/RCC_CCO/USART1_CK, 72 PC5/RCC_OSC32_IN/~{SPI1_NSS}/USART1_TX, 73 PC6/RCC_OSC32_OUT/SPI1_SCK/USART1_RX, 74 PC7/ADC1_IN3/COMP1_INP/COMP2_INM/LCD_SEG25
part B pins: 23 PE0/LCD_SEG1/TIM5_CH2, 24 PE1/LCD_SEG2/TIM1_CH2N, 25 PE2/LCD_SEG3/TIM1_CH3N, 26 PE3/LCD_SEG4, 27 PE4/DAC_TRIG1/LCD_SEG5, 28 PE5/ADC1_IN23/COMP1_INP/COMP2_INP/LCD_SEG6, 29 PD0/ADC1_IN22/ADC1_TRIG/COMP2_INP/LCD_SEG7/TIM3_CH2, 30 PD1/ADC1_IN21/COMP1_INP/COMP2_INP/LCD_COM3/TIM3_ETR, 31 PD2/ADC1_IN20/COMP1_INP/LCD_SEG8/TIM1_CH1, 32 PD3/ADC1_IN19/COMP1_INP/LCD_SEG9/TIM1_ETR, 49 PF0/ADC1_IN24/DAC_OUT1/SPI1_MISO/USART3_TX, 50 PF1/ADC1_IN25/DAC_OUT2/SPI1_MOSI/USART3_RX, 51 PF2/ADC1_IN26/SPI1_SCK/USART3_CK, 52 PF3/ADC1_IN27/~{SPI1_NSS}, 53 PF4/LCD_COM4/LCD_SEG36, 54 PF5/LCD_COM5/LCD_SEG37, 55 PF6/LCD_COM6/LCD_SEG38, 56 PF7/LCD_COM7/LCD_SEG39, 57 PD4/ADC1_IN10/COMP1_INP/LCD_SEG18/TIM1_CH2, 58 PD5/ADC1_IN9/COMP1_INP/LCD_SEG19/TIM1_CH3, 59 PD6/ADC1_IN8/COMP1_INP/LCD_SEG20/RTC_CALIB/SYS_VREFINT/~{TIM1_BKIN}, 60 PD7/ADC1_IN7/COMP1_INP/LCD_SEG21/RTC_ALARM/SYS_VREFINT/TIM1_CH1N, 75 PE6/LCD_SEG26/SYS_PVD_IN/~{TIM5_BKIN}, 76 PE7/LCD_SEG27/TIM5_ETR
part C pins: 1 PH0/LCD_SEG36, 2 PH1/LCD_SEG37, 3 PH2/LCD_SEG38, 4 PH3/LCD_SEG39, 18 PG0/LCD_SEG28/~{TIM2_BKIN}/USART3_RX, 19 PG1/LCD_SEG29/~{TIM3_BKIN}/USART3_TX, 20 PG2/LCD_SEG30/USART3_CK, 21 PG3/LCD_SEG31/TIM3_ETR, 33 PH4/USART2_RX, 34 PH5/USART2_TX, 35 PH6/TIM5_CH1/USART2_CK, 36 PH7/TIM5_CH2, 61 PG4/LCD_SEG32/~{SPI2_NSS}, 62 PG5/LCD_SEG33/SPI2_SCK, 63 PG6/LCD_SEG34/SPI2_MOSI, 64 PG7/LCD_SEG35/SPI2_MISO, 77 PI0/RTC_TAMP1/~{SPI2_NSS}/TIM3_CH1, 78 PI1/RTC_TAMP2/SPI2_SCK, 79 PI2/RTC_TAMP3/SPI2_MOSI, 80 PI3/SPI2_MISO/TIM3_CH2/TIM5_CH1

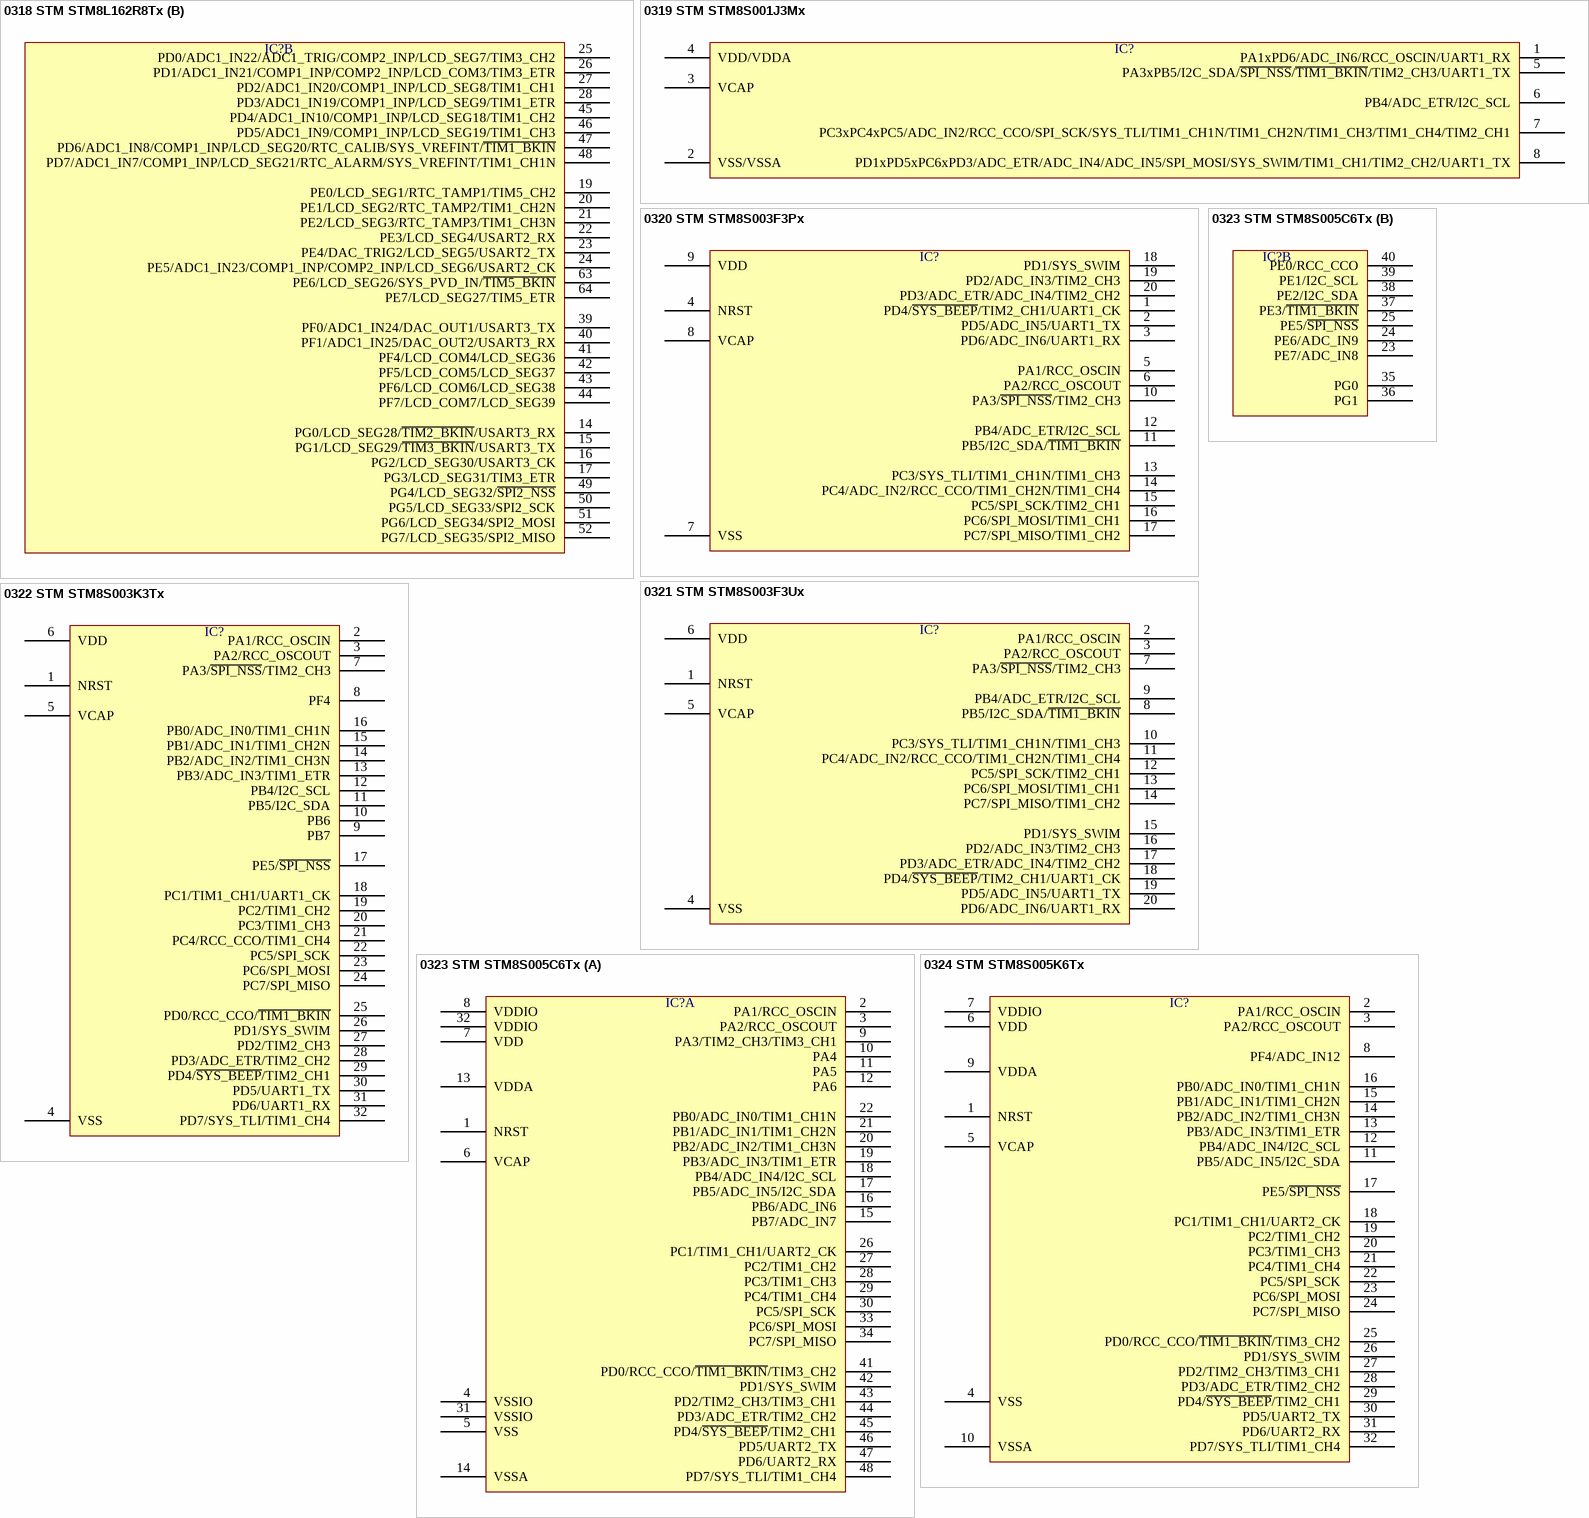
[diagram p138: symbols 0318 STM STM8L162R8Tx to 0324 STM STM8S005K6Tx]

## 0318 STM STM8L162R8Tx
designator IC?  (value not drawn)
part A pins: 1 PA0/IR_TIM/~{SYS_BEEP}/SYS_SWIM/USART1_CK, 2 NRST/PA1, 3 PA2/RCC_OSC_IN/SPI1_MISO/USART1_TX, 4 PA3/RCC_OSC_OUT/SPI1_MOSI/USART1_RX, 5 PA4/ADC1_IN2/COMP1_INP/LCD_COM0/~{TIM2_BKIN}/TIM2_ETR, 6 PA5/ADC1_IN1/COMP1_INP/LCD_COM1/~{TIM3_BKIN}/TIM3_ETR, 7 PA6/ADC1_IN0/ADC1_TRIG/COMP1_INP/LCD_COM2, 8 PA7/LCD_SEG0/TIM5_CH1, 9 VSSA/VREF-, 10 VSS1, 11 VDD1, 12 VDDA, 13 VREF+/VREF+_DAC, 18 VLCD, 29 VDD3, 30 VSS3, 31 PB0/ADC1_IN18/COMP1_INP/LCD_SEG10/TIM2_CH1, 32 PB1/ADC1_IN17/COMP1_INP/LCD_SEG11/TIM3_CH1, 33 PB2/ADC1_IN16/COMP1_INP/LCD_SEG12/TIM2_CH2, 34 PB3/ADC1_IN15/COMP1_INP/LCD_SEG13/TIM2_ETR, 35 PB4/ADC1_IN14/COMP1_INP/LCD_SEG14/~{SPI1_NSS}, 36 PB5/ADC1_IN13/COMP1_INP/LCD_SEG15/SPI1_SCK, 37 PB6/ADC1_IN12/COMP1_INP/LCD_SEG16/SPI1_MOSI, 38 PB7/ADC1_IN11/COMP1_INP/LCD_SEG17/SPI1_MISO, 53 PC0/I2C1_SDA, 54 PC1/I2C1_SCL, 55 VDD2, 56 VSS2, 57 PC2/ADC1_IN6/COMP1_INP/LCD_SEG22/SYS_VREFINT/USART1_RX, 58 PC3/ADC1_IN5/COMP1_INP/COMP2_INM/LCD_SEG23/USART1_TX, 59 PC4/ADC1_IN4/COMP1_INP/COMP2_INM/I2C1_SMB/LCD_SEG24/RCC_CCO/USART1_CK, 60 PC5/RCC_OSC32_IN/~{SPI1_NSS}/USART1_TX, 61 PC6/RCC_OSC32_OUT/SPI1_SCK/USART1_RX, 62 PC7/ADC1_IN3/COMP1_INP/COMP2_INM/LCD_SEG25
part B pins: 14 PG0/LCD_SEG28/~{TIM2_BKIN}/USART3_RX, 15 PG1/LCD_SEG29/~{TIM3_BKIN}/USART3_TX, 16 PG2/LCD_SEG30/USART3_CK, 17 PG3/LCD_SEG31/TIM3_ETR, 19 PE0/LCD_SEG1/RTC_TAMP1/TIM5_CH2, 20 PE1/LCD_SEG2/RTC_TAMP2/TIM1_CH2N, 21 PE2/LCD_SEG3/RTC_TAMP3/TIM1_CH3N, 22 PE3/LCD_SEG4/USART2_RX, 23 PE4/DAC_TRIG2/LCD_SEG5/USART2_TX, 24 PE5/ADC1_IN23/COMP1_INP/COMP2_INP/LCD_SEG6/USART2_CK, 25 PD0/ADC1_IN22/ADC1_TRIG/COMP2_INP/LCD_SEG7/TIM3_CH2, 26 PD1/ADC1_IN21/COMP1_INP/COMP2_INP/LCD_COM3/TIM3_ETR, 27 PD2/ADC1_IN20/COMP1_INP/LCD_SEG8/TIM1_CH1, 28 PD3/ADC1_IN19/COMP1_INP/LCD_SEG9/TIM1_ETR, 39 PF0/ADC1_IN24/DAC_OUT1/USART3_TX, 40 PF1/ADC1_IN25/DAC_OUT2/USART3_RX, 41 PF4/LCD_COM4/LCD_SEG36, 42 PF5/LCD_COM5/LCD_SEG37, 43 PF6/LCD_COM6/LCD_SEG38, 44 PF7/LCD_COM7/LCD_SEG39, 45 PD4/ADC1_IN10/COMP1_INP/LCD_SEG18/TIM1_CH2, 46 PD5/ADC1_IN9/COMP1_INP/LCD_SEG19/TIM1_CH3, 47 PD6/ADC1_IN8/COMP1_INP/LCD_SEG20/RTC_CALIB/SYS_VREFINT/~{TIM1_BKIN}, 48 PD7/ADC1_IN7/COMP1_INP/LCD_SEG21/RTC_ALARM/SYS_VREFINT/TIM1_CH1N, 49 PG4/LCD_SEG32/~{SPI2_NSS}, 50 PG5/LCD_SEG33/SPI2_SCK, 51 PG6/LCD_SEG34/SPI2_MOSI, 52 PG7/LCD_SEG35/SPI2_MISO, 63 PE6/LCD_SEG26/SYS_PVD_IN/~{TIM5_BKIN}, 64 PE7/LCD_SEG27/TIM5_ETR

## 0319 STM STM8S001J3Mx
designator IC?  (value not drawn)
pins: 1 PA1xPD6/ADC_IN6/RCC_OSCIN/UART1_RX, 2 VSS/VSSA, 3 VCAP, 4 VDD/VDDA, 5 PA3xPB5/I2C_SDA/~{SPI_NSS}/~{TIM1_BKIN}/TIM2_CH3/UART1_TX, 6 PB4/ADC_ETR/I2C_SCL, 7 PC3xPC4xPC5/ADC_IN2/RCC_CCO/SPI_SCK/SYS_TLI/TIM1_CH1N/TIM1_CH2N/TIM1_CH3/TIM1_CH4/TIM2_CH1, 8 PD1xPD5xPC6xPD3/ADC_ETR/ADC_IN4/ADC_IN5/SPI_MOSI/SYS_SWIM/TIM1_CH1/TIM2_CH2/UART1_TX

## 0320 STM STM8S003F3Px
designator IC?  (value not drawn)
pins: 1 PD4/~{SYS_BEEP}/TIM2_CH1/UART1_CK, 2 PD5/ADC_IN5/UART1_TX, 3 PD6/ADC_IN6/UART1_RX, 4 NRST, 5 PA1/RCC_OSCIN, 6 PA2/RCC_OSCOUT, 7 VSS, 8 VCAP, 9 VDD, 10 PA3/~{SPI_NSS}/TIM2_CH3, 11 PB5/I2C_SDA/~{TIM1_BKIN}, 12 PB4/ADC_ETR/I2C_SCL, 13 PC3/SYS_TLI/TIM1_CH1N/TIM1_CH3, 14 PC4/ADC_IN2/RCC_CCO/TIM1_CH2N/TIM1_CH4, 15 PC5/SPI_SCK/TIM2_CH1, 16 PC6/SPI_MOSI/TIM1_CH1, 17 PC7/SPI_MISO/TIM1_CH2, 18 PD1/SYS_SWIM, 19 PD2/ADC_IN3/TIM2_CH3, 20 PD3/ADC_ETR/ADC_IN4/TIM2_CH2

## 0321 STM STM8S003F3Ux
designator IC?  (value not drawn)
pins: 1 NRST, 2 PA1/RCC_OSCIN, 3 PA2/RCC_OSCOUT, 4 VSS, 5 VCAP, 6 VDD, 7 PA3/~{SPI_NSS}/TIM2_CH3, 8 PB5/I2C_SDA/~{TIM1_BKIN}, 9 PB4/ADC_ETR/I2C_SCL, 10 PC3/SYS_TLI/TIM1_CH1N/TIM1_CH3, 11 PC4/ADC_IN2/RCC_CCO/TIM1_CH2N/TIM1_CH4, 12 PC5/SPI_SCK/TIM2_CH1, 13 PC6/SPI_MOSI/TIM1_CH1, 14 PC7/SPI_MISO/TIM1_CH2, 15 PD1/SYS_SWIM, 16 PD2/ADC_IN3/TIM2_CH3, 17 PD3/ADC_ETR/ADC_IN4/TIM2_CH2, 18 PD4/~{SYS_BEEP}/TIM2_CH1/UART1_CK, 19 PD5/ADC_IN5/UART1_TX, 20 PD6/ADC_IN6/UART1_RX

## 0322 STM STM8S003K3Tx
designator IC?  (value not drawn)
pins: 1 NRST, 2 PA1/RCC_OSCIN, 3 PA2/RCC_OSCOUT, 4 VSS, 5 VCAP, 6 VDD, 7 PA3/~{SPI_NSS}/TIM2_CH3, 8 PF4, 9 PB7, 10 PB6, 11 PB5/I2C_SDA, 12 PB4/I2C_SCL, 13 PB3/ADC_IN3/TIM1_ETR, 14 PB2/ADC_IN2/TIM1_CH3N, 15 PB1/ADC_IN1/TIM1_CH2N, 16 PB0/ADC_IN0/TIM1_CH1N, 17 PE5/~{SPI_NSS}, 18 PC1/TIM1_CH1/UART1_CK, 19 PC2/TIM1_CH2, 20 PC3/TIM1_CH3, 21 PC4/RCC_CCO/TIM1_CH4, 22 PC5/SPI_SCK, 23 PC6/SPI_MOSI, 24 PC7/SPI_MISO, 25 PD0/RCC_CCO/~{TIM1_BKIN}, 26 PD1/SYS_SWIM, 27 PD2/TIM2_CH3, 28 PD3/ADC_ETR/TIM2_CH2, 29 PD4/~{SYS_BEEP}/TIM2_CH1, 30 PD5/UART1_TX, 31 PD6/UART1_RX, 32 PD7/SYS_TLI/TIM1_CH4

## 0323 STM STM8S005C6Tx
designator IC?  (value not drawn)
part A pins: 1 NRST, 2 PA1/RCC_OSCIN, 3 PA2/RCC_OSCOUT, 4 VSSIO, 5 VSS, 6 VCAP, 7 VDD, 8 VDDIO, 9 PA3/TIM2_CH3/TIM3_CH1, 10 PA4, 11 PA5, 12 PA6, 13 VDDA, 14 VSSA, 15 PB7/ADC_IN7, 16 PB6/ADC_IN6, 17 PB5/ADC_IN5/I2C_SDA, 18 PB4/ADC_IN4/I2C_SCL, 19 PB3/ADC_IN3/TIM1_ETR, 20 PB2/ADC_IN2/TIM1_CH3N, 21 PB1/ADC_IN1/TIM1_CH2N, 22 PB0/ADC_IN0/TIM1_CH1N, 26 PC1/TIM1_CH1/UART2_CK, 27 PC2/TIM1_CH2, 28 PC3/TIM1_CH3, 29 PC4/TIM1_CH4, 30 PC5/SPI_SCK, 31 VSSIO, 32 VDDIO, 33 PC6/SPI_MOSI, 34 PC7/SPI_MISO, 41 PD0/RCC_CCO/~{TIM1_BKIN}/TIM3_CH2, 42 PD1/SYS_SWIM, 43 PD2/TIM2_CH3/TIM3_CH1, 44 PD3/ADC_ETR/TIM2_CH2, 45 PD4/~{SYS_BEEP}/TIM2_CH1, 46 PD5/UART2_TX, 47 PD6/UART2_RX, 48 PD7/SYS_TLI/TIM1_CH4
part B pins: 23 PE7/ADC_IN8, 24 PE6/ADC_IN9, 25 PE5/~{SPI_NSS}, 35 PG0, 36 PG1, 37 PE3/~{TIM1_BKIN}, 38 PE2/I2C_SDA, 39 PE1/I2C_SCL, 40 PE0/RCC_CCO

## 0324 STM STM8S005K6Tx
designator IC?  (value not drawn)
pins: 1 NRST, 2 PA1/RCC_OSCIN, 3 PA2/RCC_OSCOUT, 4 VSS, 5 VCAP, 6 VDD, 7 VDDIO, 8 PF4/ADC_IN12, 9 VDDA, 10 VSSA, 11 PB5/ADC_IN5/I2C_SDA, 12 PB4/ADC_IN4/I2C_SCL, 13 PB3/ADC_IN3/TIM1_ETR, 14 PB2/ADC_IN2/TIM1_CH3N, 15 PB1/ADC_IN1/TIM1_CH2N, 16 PB0/ADC_IN0/TIM1_CH1N, 17 PE5/~{SPI_NSS}, 18 PC1/TIM1_CH1/UART2_CK, 19 PC2/TIM1_CH2, 20 PC3/TIM1_CH3, 21 PC4/TIM1_CH4, 22 PC5/SPI_SCK, 23 PC6/SPI_MOSI, 24 PC7/SPI_MISO, 25 PD0/RCC_CCO/~{TIM1_BKIN}/TIM3_CH2, 26 PD1/SYS_SWIM, 27 PD2/TIM2_CH3/TIM3_CH1, 28 PD3/ADC_ETR/TIM2_CH2, 29 PD4/~{SYS_BEEP}/TIM2_CH1, 30 PD5/UART2_TX, 31 PD6/UART2_RX, 32 PD7/SYS_TLI/TIM1_CH4

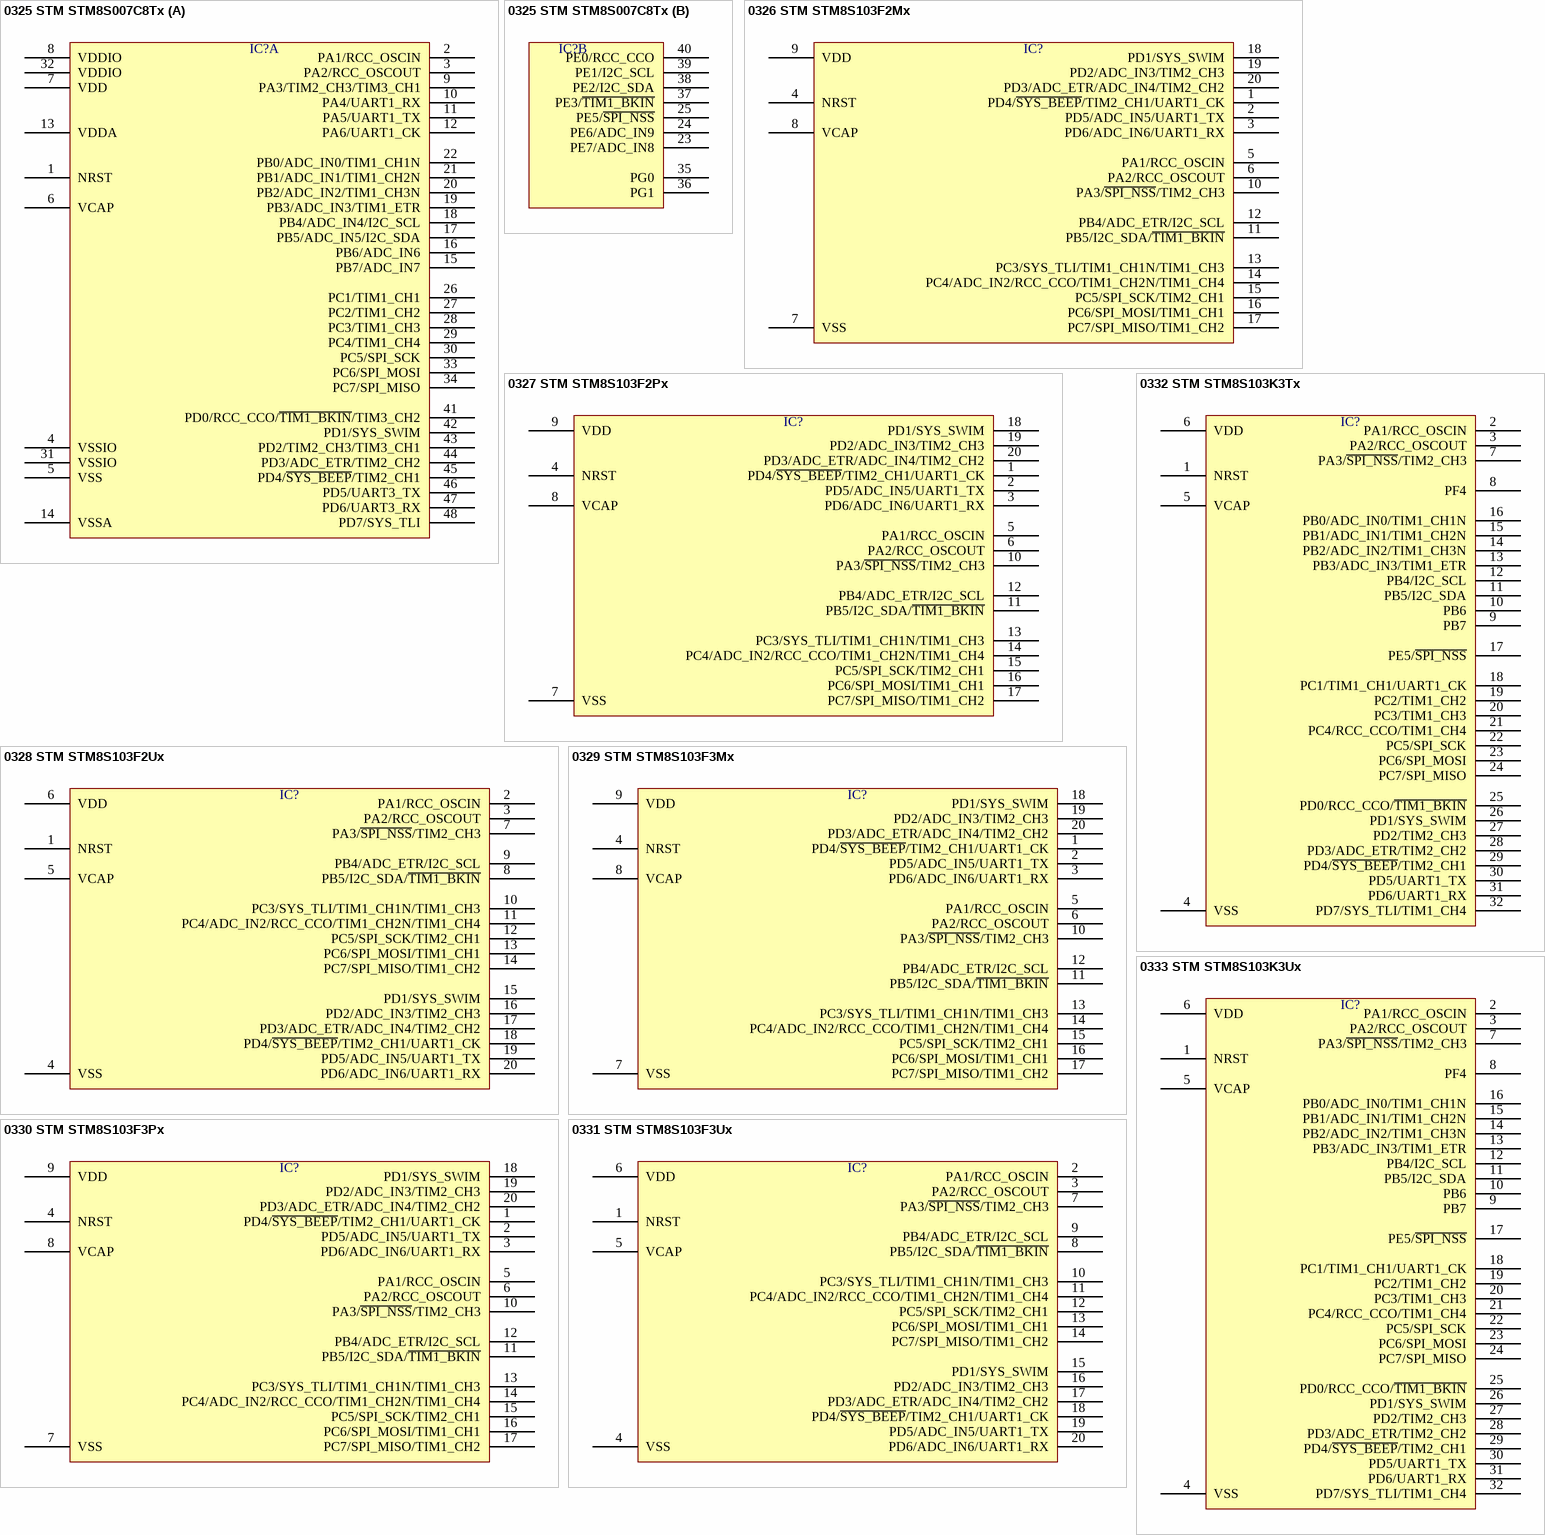
[diagram p139: symbols 0325 STM STM8S007C8Tx to 0333 STM STM8S103K3Ux]

## 0325 STM STM8S007C8Tx
designator IC?  (value not drawn)
part A pins: 1 NRST, 2 PA1/RCC_OSCIN, 3 PA2/RCC_OSCOUT, 4 VSSIO, 5 VSS, 6 VCAP, 7 VDD, 8 VDDIO, 9 PA3/TIM2_CH3/TIM3_CH1, 10 PA4/UART1_RX, 11 PA5/UART1_TX, 12 PA6/UART1_CK, 13 VDDA, 14 VSSA, 15 PB7/ADC_IN7, 16 PB6/ADC_IN6, 17 PB5/ADC_IN5/I2C_SDA, 18 PB4/ADC_IN4/I2C_SCL, 19 PB3/ADC_IN3/TIM1_ETR, 20 PB2/ADC_IN2/TIM1_CH3N, 21 PB1/ADC_IN1/TIM1_CH2N, 22 PB0/ADC_IN0/TIM1_CH1N, 26 PC1/TIM1_CH1, 27 PC2/TIM1_CH2, 28 PC3/TIM1_CH3, 29 PC4/TIM1_CH4, 30 PC5/SPI_SCK, 31 VSSIO, 32 VDDIO, 33 PC6/SPI_MOSI, 34 PC7/SPI_MISO, 41 PD0/RCC_CCO/~{TIM1_BKIN}/TIM3_CH2, 42 PD1/SYS_SWIM, 43 PD2/TIM2_CH3/TIM3_CH1, 44 PD3/ADC_ETR/TIM2_CH2, 45 PD4/~{SYS_BEEP}/TIM2_CH1, 46 PD5/UART3_TX, 47 PD6/UART3_RX, 48 PD7/SYS_TLI
part B pins: 23 PE7/ADC_IN8, 24 PE6/ADC_IN9, 25 PE5/~{SPI_NSS}, 35 PG0, 36 PG1, 37 PE3/~{TIM1_BKIN}, 38 PE2/I2C_SDA, 39 PE1/I2C_SCL, 40 PE0/RCC_CCO

## 0326 STM STM8S103F2Mx
designator IC?  (value not drawn)
pins: 1 PD4/~{SYS_BEEP}/TIM2_CH1/UART1_CK, 2 PD5/ADC_IN5/UART1_TX, 3 PD6/ADC_IN6/UART1_RX, 4 NRST, 5 PA1/RCC_OSCIN, 6 PA2/RCC_OSCOUT, 7 VSS, 8 VCAP, 9 VDD, 10 PA3/~{SPI_NSS}/TIM2_CH3, 11 PB5/I2C_SDA/~{TIM1_BKIN}, 12 PB4/ADC_ETR/I2C_SCL, 13 PC3/SYS_TLI/TIM1_CH1N/TIM1_CH3, 14 PC4/ADC_IN2/RCC_CCO/TIM1_CH2N/TIM1_CH4, 15 PC5/SPI_SCK/TIM2_CH1, 16 PC6/SPI_MOSI/TIM1_CH1, 17 PC7/SPI_MISO/TIM1_CH2, 18 PD1/SYS_SWIM, 19 PD2/ADC_IN3/TIM2_CH3, 20 PD3/ADC_ETR/ADC_IN4/TIM2_CH2

## 0327 STM STM8S103F2Px
designator IC?  (value not drawn)
pins: 1 PD4/~{SYS_BEEP}/TIM2_CH1/UART1_CK, 2 PD5/ADC_IN5/UART1_TX, 3 PD6/ADC_IN6/UART1_RX, 4 NRST, 5 PA1/RCC_OSCIN, 6 PA2/RCC_OSCOUT, 7 VSS, 8 VCAP, 9 VDD, 10 PA3/~{SPI_NSS}/TIM2_CH3, 11 PB5/I2C_SDA/~{TIM1_BKIN}, 12 PB4/ADC_ETR/I2C_SCL, 13 PC3/SYS_TLI/TIM1_CH1N/TIM1_CH3, 14 PC4/ADC_IN2/RCC_CCO/TIM1_CH2N/TIM1_CH4, 15 PC5/SPI_SCK/TIM2_CH1, 16 PC6/SPI_MOSI/TIM1_CH1, 17 PC7/SPI_MISO/TIM1_CH2, 18 PD1/SYS_SWIM, 19 PD2/ADC_IN3/TIM2_CH3, 20 PD3/ADC_ETR/ADC_IN4/TIM2_CH2

## 0328 STM STM8S103F2Ux
designator IC?  (value not drawn)
pins: 1 NRST, 2 PA1/RCC_OSCIN, 3 PA2/RCC_OSCOUT, 4 VSS, 5 VCAP, 6 VDD, 7 PA3/~{SPI_NSS}/TIM2_CH3, 8 PB5/I2C_SDA/~{TIM1_BKIN}, 9 PB4/ADC_ETR/I2C_SCL, 10 PC3/SYS_TLI/TIM1_CH1N/TIM1_CH3, 11 PC4/ADC_IN2/RCC_CCO/TIM1_CH2N/TIM1_CH4, 12 PC5/SPI_SCK/TIM2_CH1, 13 PC6/SPI_MOSI/TIM1_CH1, 14 PC7/SPI_MISO/TIM1_CH2, 15 PD1/SYS_SWIM, 16 PD2/ADC_IN3/TIM2_CH3, 17 PD3/ADC_ETR/ADC_IN4/TIM2_CH2, 18 PD4/~{SYS_BEEP}/TIM2_CH1/UART1_CK, 19 PD5/ADC_IN5/UART1_TX, 20 PD6/ADC_IN6/UART1_RX

## 0329 STM STM8S103F3Mx
designator IC?  (value not drawn)
pins: 1 PD4/~{SYS_BEEP}/TIM2_CH1/UART1_CK, 2 PD5/ADC_IN5/UART1_TX, 3 PD6/ADC_IN6/UART1_RX, 4 NRST, 5 PA1/RCC_OSCIN, 6 PA2/RCC_OSCOUT, 7 VSS, 8 VCAP, 9 VDD, 10 PA3/~{SPI_NSS}/TIM2_CH3, 11 PB5/I2C_SDA/~{TIM1_BKIN}, 12 PB4/ADC_ETR/I2C_SCL, 13 PC3/SYS_TLI/TIM1_CH1N/TIM1_CH3, 14 PC4/ADC_IN2/RCC_CCO/TIM1_CH2N/TIM1_CH4, 15 PC5/SPI_SCK/TIM2_CH1, 16 PC6/SPI_MOSI/TIM1_CH1, 17 PC7/SPI_MISO/TIM1_CH2, 18 PD1/SYS_SWIM, 19 PD2/ADC_IN3/TIM2_CH3, 20 PD3/ADC_ETR/ADC_IN4/TIM2_CH2

## 0330 STM STM8S103F3Px
designator IC?  (value not drawn)
pins: 1 PD4/~{SYS_BEEP}/TIM2_CH1/UART1_CK, 2 PD5/ADC_IN5/UART1_TX, 3 PD6/ADC_IN6/UART1_RX, 4 NRST, 5 PA1/RCC_OSCIN, 6 PA2/RCC_OSCOUT, 7 VSS, 8 VCAP, 9 VDD, 10 PA3/~{SPI_NSS}/TIM2_CH3, 11 PB5/I2C_SDA/~{TIM1_BKIN}, 12 PB4/ADC_ETR/I2C_SCL, 13 PC3/SYS_TLI/TIM1_CH1N/TIM1_CH3, 14 PC4/ADC_IN2/RCC_CCO/TIM1_CH2N/TIM1_CH4, 15 PC5/SPI_SCK/TIM2_CH1, 16 PC6/SPI_MOSI/TIM1_CH1, 17 PC7/SPI_MISO/TIM1_CH2, 18 PD1/SYS_SWIM, 19 PD2/ADC_IN3/TIM2_CH3, 20 PD3/ADC_ETR/ADC_IN4/TIM2_CH2